# Altium schematic symbol library Allwinner.SCHLIB: 22 symbols (part 1 of 2)
Pins are listed as number, name and electrical type; pins without a type are passive.

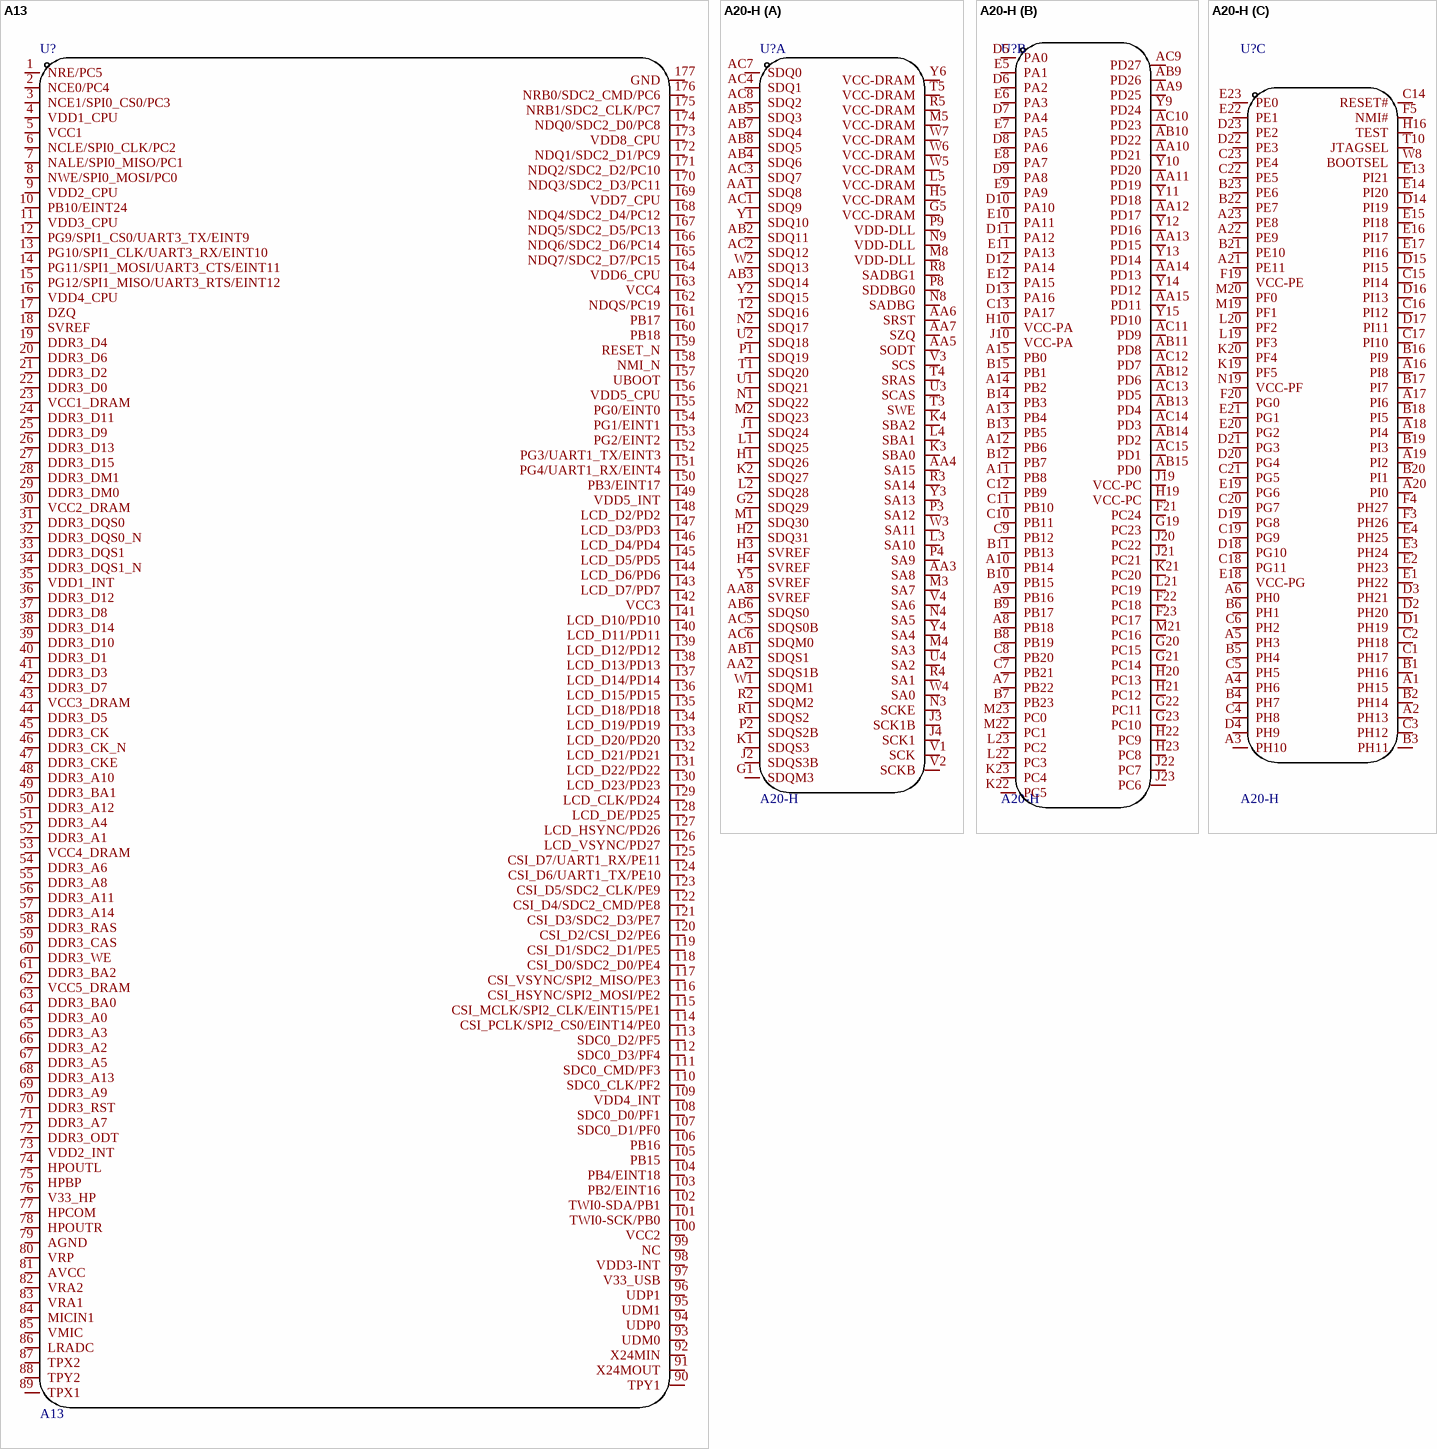
[diagram p0: symbols A13 to A20-H]

## A13
designator U?
Manufacturer: Allwinner(全志); Add into BOM: yes; Symbol: A13; Device: A13; LCSC Part Name: A13 停产; Supplier Part: C80524; Manufacturer Part: A13; Supplier Footprint: TQFP-176(20x20); JLCPCB Part Class: Extended Part; Datasheet: https://atta.szlcsc.com/upload/public/pdf/source/20161119/1479540174892.pdf; Supplier: LCSC; Convert to PCB: yes; Name: A13
footprint TQFP-176_L20.0-W20.0-P0.40-EP7.7-BL
3D model TQFP-176_L20.0-W20.0-H1.1-P0.40-EP7.7-BL
pins: 1 NRE/PC5, 2 NCE0/PC4, 3 NCE1/SPI0_CS0/PC3, 4 VDD1_CPU, 5 VCC1, 6 NCLE/SPI0_CLK/PC2, 7 NALE/SPI0_MISO/PC1, 8 NWE/SPI0_MOSI/PC0, 9 VDD2_CPU, 10 PB10/EINT24, 11 VDD3_CPU, 12 PG9/SPI1_CS0/UART3_TX/EINT9, 13 PG10/SPI1_CLK/UART3_RX/EINT10, 14 PG11/SPI1_MOSI/UART3_CTS/EINT11, 15 PG12/SPI1_MISO/UART3_RTS/EINT12, 16 VDD4_CPU, 17 DZQ, 18 SVREF, 19 DDR3_D4, 20 DDR3_D6, 21 DDR3_D2, 22 DDR3_D0, 23 VCC1_DRAM, 24 DDR3_D11, 25 DDR3_D9, 26 DDR3_D13, 27 DDR3_D15, 28 DDR3_DM1, 29 DDR3_DM0, 30 VCC2_DRAM, 31 DDR3_DQS0, 32 DDR3_DQS0_N, 33 DDR3_DQS1, 34 DDR3_DQS1_N, 35 VDD1_INT, 36 DDR3_D12, 37 DDR3_D8, 38 DDR3_D14, 39 DDR3_D10, 40 DDR3_D1, 41 DDR3_D3, 42 DDR3_D7, 43 VCC3_DRAM, 44 DDR3_D5, 45 DDR3_CK, 46 DDR3_CK_N, 47 DDR3_CKE, 48 DDR3_A10, 49 DDR3_BA1, 50 DDR3_A12, 51 DDR3_A4, 52 DDR3_A1, 53 VCC4_DRAM, 54 DDR3_A6, 55 DDR3_A8, 56 DDR3_A11, 57 DDR3_A14, 58 DDR3_RAS, 59 DDR3_CAS, 60 DDR3_WE, 61 DDR3_BA2, 62 VCC5_DRAM, 63 DDR3_BA0, 64 DDR3_A0, 65 DDR3_A3, 66 DDR3_A2, 67 DDR3_A5, 68 DDR3_A13, 69 DDR3_A9, 70 DDR3_RST, 71 DDR3_A7, 72 DDR3_ODT, 73 VDD2_INT, 74 HPOUTL, 75 HPBP, 76 V33_HP, 77 HPCOM, 78 HPOUTR, 79 AGND, 80 VRP, 81 AVCC, 82 VRA2, 83 VRA1, 84 MICIN1, 85 VMIC, 86 LRADC, 87 TPX2, 88 TPY2, 89 TPX1, 90 TPY1, 91 X24MOUT, 92 X24MIN, 93 UDM0, 94 UDP0, 95 UDM1, 96 UDP1, 97 V33_USB, 98 VDD3-INT, 99 NC, 100 VCC2, 101 TWI0-SCK/PB0, 102 TWI0-SDA/PB1, 103 PB2/EINT16, 104 PB4/EINT18, 105 PB15, 106 PB16, 107 SDC0_D1/PF0, 108 SDC0_D0/PF1, 109 VDD4_INT, 110 SDC0_CLK/PF2, 111 SDC0_CMD/PF3, 112 SDC0_D3/PF4, 113 SDC0_D2/PF5, 114 CSI_PCLK/SPI2_CS0/EINT14/PE0, 115 CSI_MCLK/SPI2_CLK/EINT15/PE1, 116 CSI_HSYNC/SPI2_MOSI/PE2, 117 CSI_VSYNC/SPI2_MISO/PE3, 118 CSI_D0/SDC2_D0/PE4, 119 CSI_D1/SDC2_D1/PE5, 120 CSI_D2/CSI_D2/PE6, 121 CSI_D3/SDC2_D3/PE7, 122 CSI_D4/SDC2_CMD/PE8, 123 CSI_D5/SDC2_CLK/PE9, 124 CSI_D6/UART1_TX/PE10, 125 CSI_D7/UART1_RX/PE11, 126 LCD_VSYNC/PD27, 127 LCD_HSYNC/PD26, 128 LCD_DE/PD25, 129 LCD_CLK/PD24, 130 LCD_D23/PD23, 131 LCD_D22/PD22, 132 LCD_D21/PD21, 133 LCD_D20/PD20, 134 LCD_D19/PD19, 135 LCD_D18/PD18, 136 LCD_D15/PD15, 137 LCD_D14/PD14, 138 LCD_D13/PD13, 139 LCD_D12/PD12, 140 LCD_D11/PD11, 141 LCD_D10/PD10, 142 VCC3, 143 LCD_D7/PD7, 144 LCD_D6/PD6, 145 LCD_D5/PD5, 146 LCD_D4/PD4, 147 LCD_D3/PD3, 148 LCD_D2/PD2, 149 VDD5_INT, 150 PB3/EINT17, 151 PG4/UART1_RX/EINT4, 152 PG3/UART1_TX/EINT3, 153 PG2/EINT2, 154 PG1/EINT1, 155 PG0/EINT0, 156 VDD5_CPU, 157 UBOOT, 158 NMI_N, 159 RESET_N, 160 PB18, 161 PB17, 162 NDQS/PC19, 163 VCC4, 164 VDD6_CPU, 165 NDQ7/SDC2_D7/PC15, 166 NDQ6/SDC2_D6/PC14, 167 NDQ5/SDC2_D5/PC13, 168 NDQ4/SDC2_D4/PC12, 169 VDD7_CPU, 170 NDQ3/SDC2_D3/PC11, 171 NDQ2/SDC2_D2/PC10, 172 NDQ1/SDC2_D1/PC9, 173 VDD8_CPU, 174 NDQ0/SDC2_D0/PC8, 175 NRB1/SDC2_CLK/PC7, 176 NRB0/SDC2_CMD/PC6, 177 GND

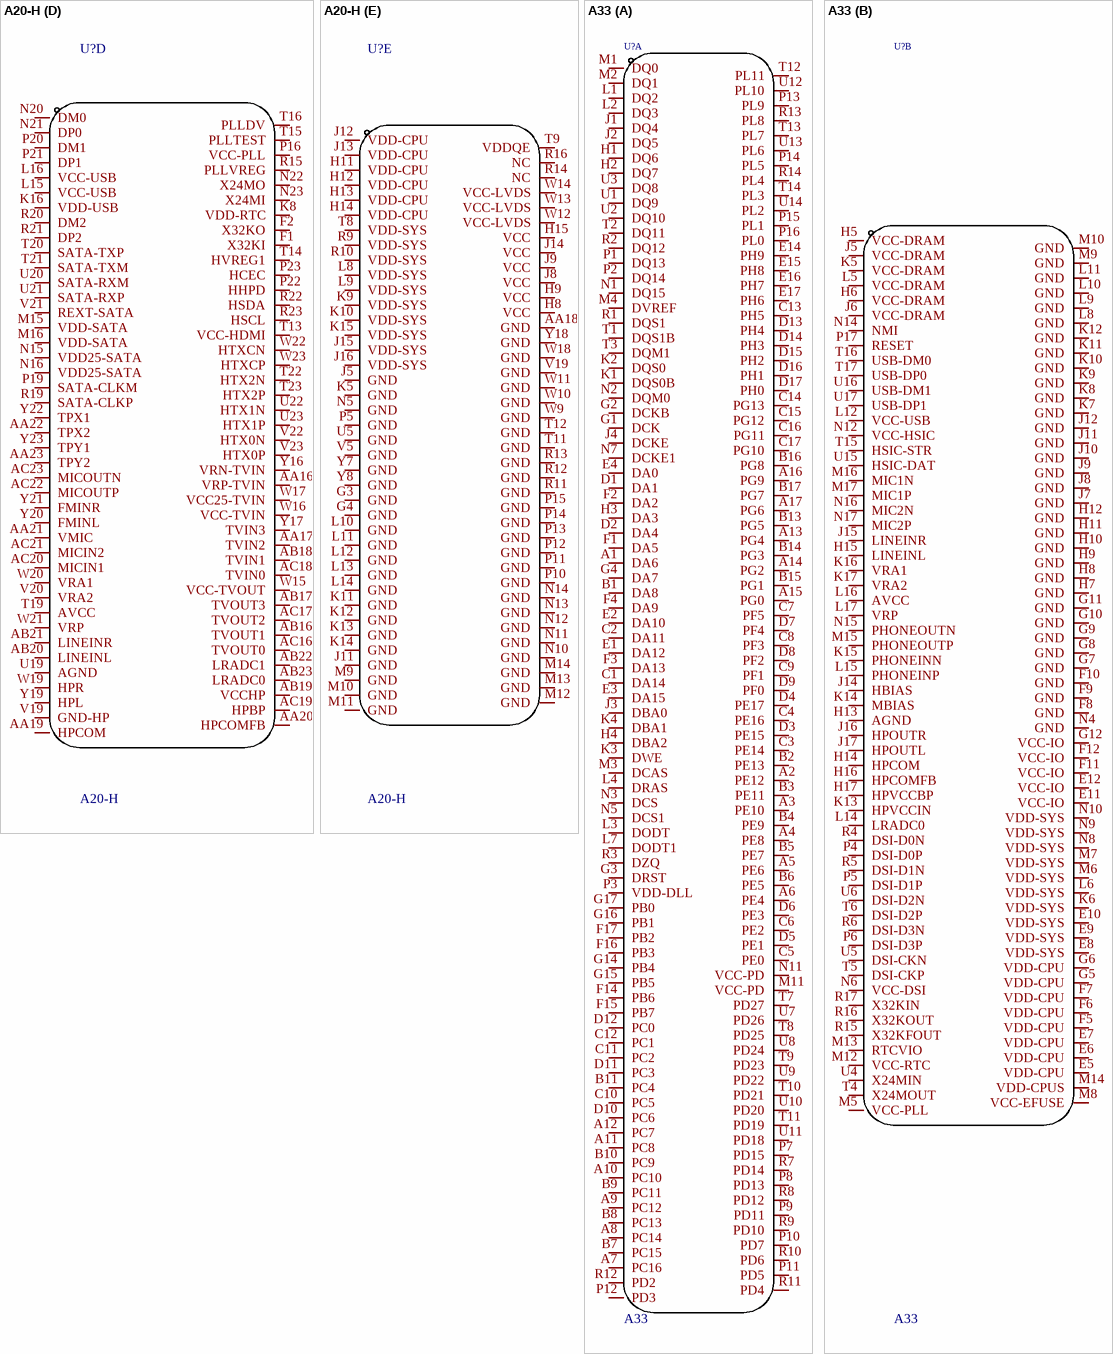
[diagram p1: symbols A20-H to A33]

## A20-H
designator U?
Manufacturer: Allwinner(全志); Add into BOM: yes; Name: A20-H; Symbol: A20-H; Device: A20-H; LCSC Part Name: A20; Supplier Part: C2935788; Manufacturer Part: A20-H; Supplier Footprint: BGA-441; JLCPCB Part Class: Extended Part; Datasheet: https://atta.szlcsc.com/upload/public/pdf/source/20220418/6489DA89877B92B927266B5EE447137C.pdf; Supplier: LCSC; Convert to PCB: yes
footprint BGA-441_L19.0-W19.0-P0.8_XAM2434ASFGGAALV
3D model BGA-441_L19.0-W19.0-P0.8_XAM2434ASFGGAALV
part A pins: AA1 SDQ8, AA2 SDQS1B, AA3 SA8, AA4 SA15, AA5 SODT, AA6 SRST, AA7 SZQ, AA8 SVREF, AB1 SDQS1, AB2 SDQ11, AB3 SDQ14, AB4 SDQ6, AB5 SDQ3, AB6 SDQS0, AB7 SDQ4, AB8 SDQ5, AC1 SDQ9, AC2 SDQ12, AC3 SDQ7, AC4 SDQ1, AC5 SDQS0B, AC6 SDQM0, AC7 SDQ0, AC8 SDQ2, G1 SDQM3, G2 SDQ29, G5 VCC-DRAM, H1 SDQ26, H2 SDQ31, H3 SVREF, H4 SVREF, H5 VCC-DRAM, J1 SDQ24, J2 SDQS3B, J3 SCK1B, J4 SCK1, K1 SDQS3, K2 SDQ27, K3 SBA0, K4 SBA2, L1 SDQ25, L2 SDQ28, L3 SA10, L4 SBA1, L5 VCC-DRAM, M1 SDQ30, M2 SDQ23, M3 SA7, M4 SA3, M5 VCC-DRAM, M8 VDD-DLL, N1 SDQ22, N2 SDQ17, N3 SCKE, N4 SA5, N8 SADBG, N9 VDD-DLL, P1 SDQ19, P2 SDQS2B, P3 SA12, P4 SA9, P8 SDDBG0, P9 VDD-DLL, R1 SDQS2, R2 SDQM2, R3 SA14, R4 SA1, R5 VCC-DRAM, R8 SADBG1, T1 SDQ20, T2 SDQ16, T3 SWE, T4 SRAS, T5 VCC-DRAM, U1 SDQ21, U2 SDQ18, U3 SCAS, U4 SA2, V1 SCK, V2 SCKB, V3 SCS, V4 SA6, W1 SDQM1, W2 SDQ13, W3 SA11, W4 SA0, W5 VCC-DRAM, W6 VCC-DRAM, W7 VCC-DRAM, Y1 SDQ10, Y2 SDQ15, Y3 SA13, Y4 SA4, Y5 SVREF, Y6 VCC-DRAM
part B pins: A7 PB22, A8 PB18, A9 PB16, A10 PB14, A11 PB8, A12 PB6, A13 PB4, A14 PB2, A15 PB0, AA9 PD25, AA10 PD21, AA11 PD19, AA12 PD17, AA13 PD15, AA14 PD13, AA15 PD11, AB9 PD26, AB10 PD22, AB11 PD8, AB12 PD6, AB13 PD4, AB14 PD2, AB15 PD0, AC9 PD27, AC10 PD23, AC11 PD9, AC12 PD7, AC13 PD5, AC14 PD3, AC15 PD1, B7 PB23, B8 PB19, B9 PB17, B10 PB15, B11 PB13, B12 PB7, B13 PB5, B14 PB3, B15 PB1, C7 PB21, C8 PB20, C9 PB12, C10 PB11, C11 PB10, C12 PB9, C13 PA17, D5 PA0, D6 PA2, D7 PA4, D8 PA6, D9 PA8, D10 PA10, D11 PA12, D12 PA14, D13 PA16, E5 PA1, E6 PA3, E7 PA5, E8 PA7, E9 PA9, E10 PA11, E11 PA13, E12 PA15, F21 PC24, F22 PC18, F23 PC17, G19 PC23, G20 PC15, G21 PC14, G22 PC11, G23 PC10, H10 VCC-PA, H19 VCC-PC, H20 PC13, H21 PC12, H22 PC9, H23 PC8, J10 VCC-PA, J19 VCC-PC, J20 PC22, J21 PC21, J22 PC7, J23 PC6, K21 PC20, K22 PC5, K23 PC4, L21 PC19, L22 PC3, L23 PC2, M21 PC16, M22 PC1, M23 PC0, Y9 PD24, Y10 PD20, Y11 PD18, Y12 PD16, Y13 PD14, Y14 PD12, Y15 PD10
part C pins: A1 PH15, A2 PH13, A3 PH10, A4 PH6, A5 PH3, A6 PH0, A16 PI8, A17 PI6, A18 PI4, A19 PI2, A20 PI0, A21 PE11, A22 PE9, A23 PE8, B1 PH16, B2 PH14, B3 PH11, B4 PH7, B5 PH4, B6 PH1, B16 PI9, B17 PI7, B18 PI5, B19 PI3, B20 PI1, B21 PE10, B22 PE7, B23 PE6, C1 PH17, C2 PH18, C3 PH12, C4 PH8, C5 PH5, C6 PH2, C14 RESET#, C15 PI14, C16 PI12, C17 PI10, C18 PG11, C19 PG9, C20 PG7, C21 PG5, C22 PE5, C23 PE4, D1 PH19, D2 PH20, D3 PH21, D4 PH9, D14 PI19, D15 PI15, D16 PI13, D17 PI11, D18 PG10, D19 PG8, D20 PG4, D21 PG3, D22 PE3, D23 PE2, E1 PH22, E2 PH23, E3 PH24, E4 PH25, E13 PI21, E14 PI20, E15 PI18, E16 PI17, E17 PI16, E18 VCC-PG, E19 PG6, E20 PG2, E21 PG1, E22 PE1, E23 PE0, F3 PH26, F4 PH27, F5 NMI#, F19 VCC-PE, F20 PG0, H16 TEST, K19 PF5, K20 PF4, L19 PF3, L20 PF2, M19 PF1, M20 PF0, N19 VCC-PF, T10 JTAGSEL, W8 BOOTSEL
part D pins: AA16 VRP-TVIN, AA17 TVIN2, AA19 HPCOM, AA20 HPCOMFB, AA21 VMIC, AA22 TPX2, AA23 TPY2, AB16 TVOUT1, AB17 TVOUT3, AB18 TVIN1, AB19 VCCHP, AB20 LINEINL, AB21 LINEINR, AB22 LRADC1, AB23 LRADC0, AC16 TVOUT0, AC17 TVOUT2, AC18 TVIN0, AC19 HPBP, AC20 MICIN1, AC21 MICIN2, AC22 MICOUTP, AC23 MICOUTN, F1 X32KI, F2 X32KO, K8 VDD-RTC, K16 VDD-USB, L15 VCC-USB, L16 VCC-USB, M15 VDD-SATA, M16 VDD-SATA, N15 VDD25-SATA, N16 VDD25-SATA, N20 DM0, N21 DP0, N22 X24MO, N23 X24MI, P16 VCC-PLL, P19 SATA-CLKM, P20 DM1, P21 DP1, P22 HHPD, P23 HCEC, R15 PLLVREG, R19 SATA-CLKP, R20 DM2, R21 DP2, R22 HSDA, R23 HSCL, T13 VCC-HDMI, T14 HVREG1, T15 PLLTEST, T16 PLLDV, T19 AVCC, T20 SATA-TXP, T21 SATA-TXM, T22 HTX2N, T23 HTX2P, U19 AGND, U20 SATA-RXM, U21 SATA-RXP, U22 HTX1N, U23 HTX1P, V19 GND-HP, V20 VRA2, V21 REXT-SATA, V22 HTX0N, V23 HTX0P, W15 VCC-TVOUT, W16 VCC-TVIN, W17 VCC25-TVIN, W19 HPR, W20 VRA1, W21 VRP, W22 HTXCN, W23 HTXCP, Y16 VRN-TVIN, Y17 TVIN3, Y19 HPL, Y20 FMINL, Y21 FMINR, Y22 TPX1, Y23 TPY1
part E pins: AA18 GND, G3 GND, G4 GND, H8 VCC, H9 VCC, H11 VDD-CPU, H12 VDD-CPU, H13 VDD-CPU, H14 VDD-CPU, H15 VCC, J5 GND, J8 VCC, J9 VCC, J11 GND, J12 VDD-CPU, J13 VDD-CPU, J14 VCC, J15 VDD-SYS, J16 VDD-SYS, K5 GND, K9 VDD-SYS, K10 VDD-SYS, K11 GND, K12 GND, K13 GND, K14 GND, K15 VDD-SYS, L8 VDD-SYS, L9 VDD-SYS, L10 GND, L11 GND, L12 GND, L13 GND, L14 GND, M9 GND, M10 GND, M11 GND, M12 GND, M13 GND, M14 GND, N5 GND, N10 GND, N11 GND, N12 GND, N13 GND, N14 GND, P5 GND, P10 GND, P11 GND, P12 GND, P13 GND, P14 GND, P15 GND, R9 VDD-SYS, R10 VDD-SYS, R11 GND, R12 GND, R13 GND, R14 NC, R16 NC, T8 VDD-SYS, T9 VDDQE, T11 GND, T12 GND, U5 GND, V5 GND, V19 GND, W9 GND, W10 GND, W11 GND, W12 VCC-LVDS, W13 VCC-LVDS, W14 VCC-LVDS, W18 GND, Y7 GND, Y8 GND, Y18 GND

## A33
designator U?
CPU Core:- CPU Maximum Speed:- Operating Voltage Range:- Operating Voltage Range:- Program Storage Size:- Program Memory Type:- RAM Size:- EEPROM:- GPIO Ports Number:- ADC (Bit):- DAC (Bit):- PWM (Bit):- 8Bit Timer:- 16Bit Timer:- 32Bit Timer:- CAN:- UART; Manufacturer: Allwinner(全志); Add into BOM: yes; Name: A33; Symbol: A33; Device: A33; LCSC Part Name: Allwinner A33 Allwinner A33; Supplier Part: C2845168; Manufacturer Part: A33; Supplier Footprint: TFBGA-282; JLCPCB Part Class: Extended Part; Datasheet: 2021-07-07/785467A/b1ac0bba73554d55b76d604ea0a8145f/A33Datasheetrelease.pdf; Supplier: LCSC; Convert to PCB: yes; CPU Core: -; CPU Maximum Speed: -; Operating Voltage Range: -; Program Storage Size: -; Program Memory Type: -; RAM Size: -; EEPROM: -; GPIO Ports Number: -; ADC (Bit): -; DAC (Bit): -; PWM (Bit): -; 8Bit Timer: -; 16Bit Timer: -; 32Bit Timer: -; CAN: -; UART/USART: -; I2C: -; I2S: -; SPI: -; Universal Serial Bus: -; Internal Comparator: -; Peripheral/Function: -; communication protocol: -; Watchdog: -; Real-Time Clock: -; Infrared Data Association: -; Low-Voltage Detect: -; CCP Capture/Compare: -; LCD Module: -; LED Module: -; Secure Digital Input and Output: -; Direct Memory Access: -; Internal Oscillator: -; Operating Temperature Range: -
footprint BGA-282_L14.0-W14.0-R17-W17-P0.8-TL
3D model BGA-282_L14.0-W14.0-R17-W17-P0.8-TL
part A pins: A1 DA6, A2 PE12, A3 PE10, A4 PE8, A5 PE6, A6 PE4, A7 PC16, A8 PC14, A9 PC12, A10 PC10, A11 PC8, A12 PC7, A13 PG4, A14 PG2, A15 PG0, A16 PG9, A17 PG6, B1 DA8, B2 PE13, B3 PE11, B4 PE9, B5 PE7, B6 PE5, B7 PC15, B8 PC13, B9 PC11, B10 PC9, B11 PC4, B13 PG5, B14 PG3, B15 PG1, B16 PG8, B17 PG7, C1 DA14, C2 DA11, C3 PE14, C4 PE16, C5 PE0, C6 PE2, C7 PF5, C8 PF3, C9 PF1, C10 PC5, C11 PC2, C12 PC1, C13 PH5, C14 PG13, C15 PG12, C16 PG11, C17 PG10, D1 DA1, D2 DA4, D3 PE15, D4 PE17, D5 PE1, D6 PE3, D7 PF4, D8 PF2, D9 PF0, D10 PC6, D11 PC3, D12 PC0, D13 PH4, D14 PH3, D15 PH2, D16 PH1, D17 PH0, E1 DA12, E2 DA10, E3 DA15, E4 DA0, E14 PH9, E15 PH8, E16 PH7, E17 PH6, F1 DA5, F2 DA2, F3 DA13, F4 DA9, F14 PB6, F15 PB7, F16 PB3, F17 PB2, G1 DCK, G2 DCKB, G3 DRST, G4 DA7, G14 PB4, G15 PB5, G16 PB1, G17 PB0, H1 DQ6, H2 DQ7, H3 DA3, H4 DBA2, J1 DQ4, J2 DQ5, J3 DBA0, J4 DCKE, K1 DQS0B, K2 DQS0, K3 DWE, K4 DBA1, L1 DQ2, L2 DQ3, L3 DODT, L4 DRAS, L7 DODT1, M1 DQ0, M2 DQ1, M3 DCAS, M4 DVREF, M11 VCC-PD, N1 DQ15, N2 DQM0, N3 DCS, N5 DCS1, N7 DCKE1, N11 VCC-PD, P1 DQ13, P2 DQ14, P3 VDD-DLL, P7 PD15, P8 PD13, P9 PD11, P10 PD7, P11 PD5, P12 PD3, P13 PL9, P14 PL5, P15 PL1, P16 PL0, R1 DQS1, R2 DQ12, R3 DZQ, R7 PD14, R8 PD12, R9 PD10, R10 PD6, R11 PD4, R12 PD2, R13 PL8, R14 PL4, T1 DQS1B, T2 DQ11, T3 DQM1, T7 PD27, T8 PD25, T9 PD23, T10 PD21, T11 PD19, T12 PL11, T13 PL7, T14 PL3, U1 DQ9, U2 DQ10, U3 DQ8, U7 PD26, U8 PD24, U9 PD22, U10 PD20, U11 PD18, U12 PL10, U13 PL6, U14 PL2
part B pins: E5 VDD-CPU, E6 VDD-CPU, E7 VDD-CPU, E8 VDD-SYS, E9 VDD-SYS, E10 VDD-SYS, E11 VCC-IO, E12 VCC-IO, F5 VDD-CPU, F6 VDD-CPU, F7 VDD-CPU, F8 GND, F9 GND, F10 GND, F11 VCC-IO, F12 VCC-IO, G5 VDD-CPU, G6 VDD-CPU, G7 GND, G8 GND, G9 GND, G10 GND, G11 GND, G12 VCC-IO, H5 VCC-DRAM, H6 VCC-DRAM, H7 GND, H8 GND, H9 GND, H10 GND, H11 GND, H12 GND, H13 AGND, H14 HPCOM, H15 LINEINL, H16 HPCOMFB, H17 HPVCCBP, J5 VCC-DRAM, J6 VCC-DRAM, J7 GND, J8 GND, J9 GND, J10 GND, J11 GND, J12 GND, J14 HBIAS, J15 LINEINR, J16 HPOUTR, J17 HPOUTL, K5 VCC-DRAM, K6 VDD-SYS, K7 GND, K8 GND, K9 GND, K10 GND, K11 GND, K12 GND, K13 HPVCCIN, K14 MBIAS, K15 PHONEINN, K16 VRA1, K17 VRA2, L5 VCC-DRAM, L6 VDD-SYS, L8 GND, L9 GND, L10 GND, L11 GND, L12 VCC-USB, L14 LRADC0, L15 PHONEINP, L16 AVCC, L17 VRP, M5 VCC-PLL, M6 VDD-SYS, M7 VDD-SYS, M8 VCC-EFUSE, M9 GND, M10 GND, M12 VCC-RTC, M13 RTCVIO, M14 VDD-CPUS, M15 PHONEOUTP, M16 MIC1N, M17 MIC1P, N4 GND, N6 VCC-DSI, N8 VDD-SYS, N9 VDD-SYS, N10 VDD-SYS, N12 VCC-HSIC, N14 NMI, N15 PHONEOUTN, N16 MIC2N, N17 MIC2P, P4 DSI-D0P, P5 DSI-D1P, P6 DSI-D3P, P17 RESET, R4 DSI-D0N, R5 DSI-D1N, R6 DSI-D3N, R15 X32KFOUT, R16 X32KOUT, R17 X32KIN, T4 X24MOUT, T5 DSI-CKP, T6 DSI-D2P, T15 HSIC-STR, T16 USB-DM0, T17 USB-DP0, U4 X24MIN, U5 DSI-CKN, U6 DSI-D2N, U15 HSIC-DAT, U16 USB-DM1, U17 USB-DP1

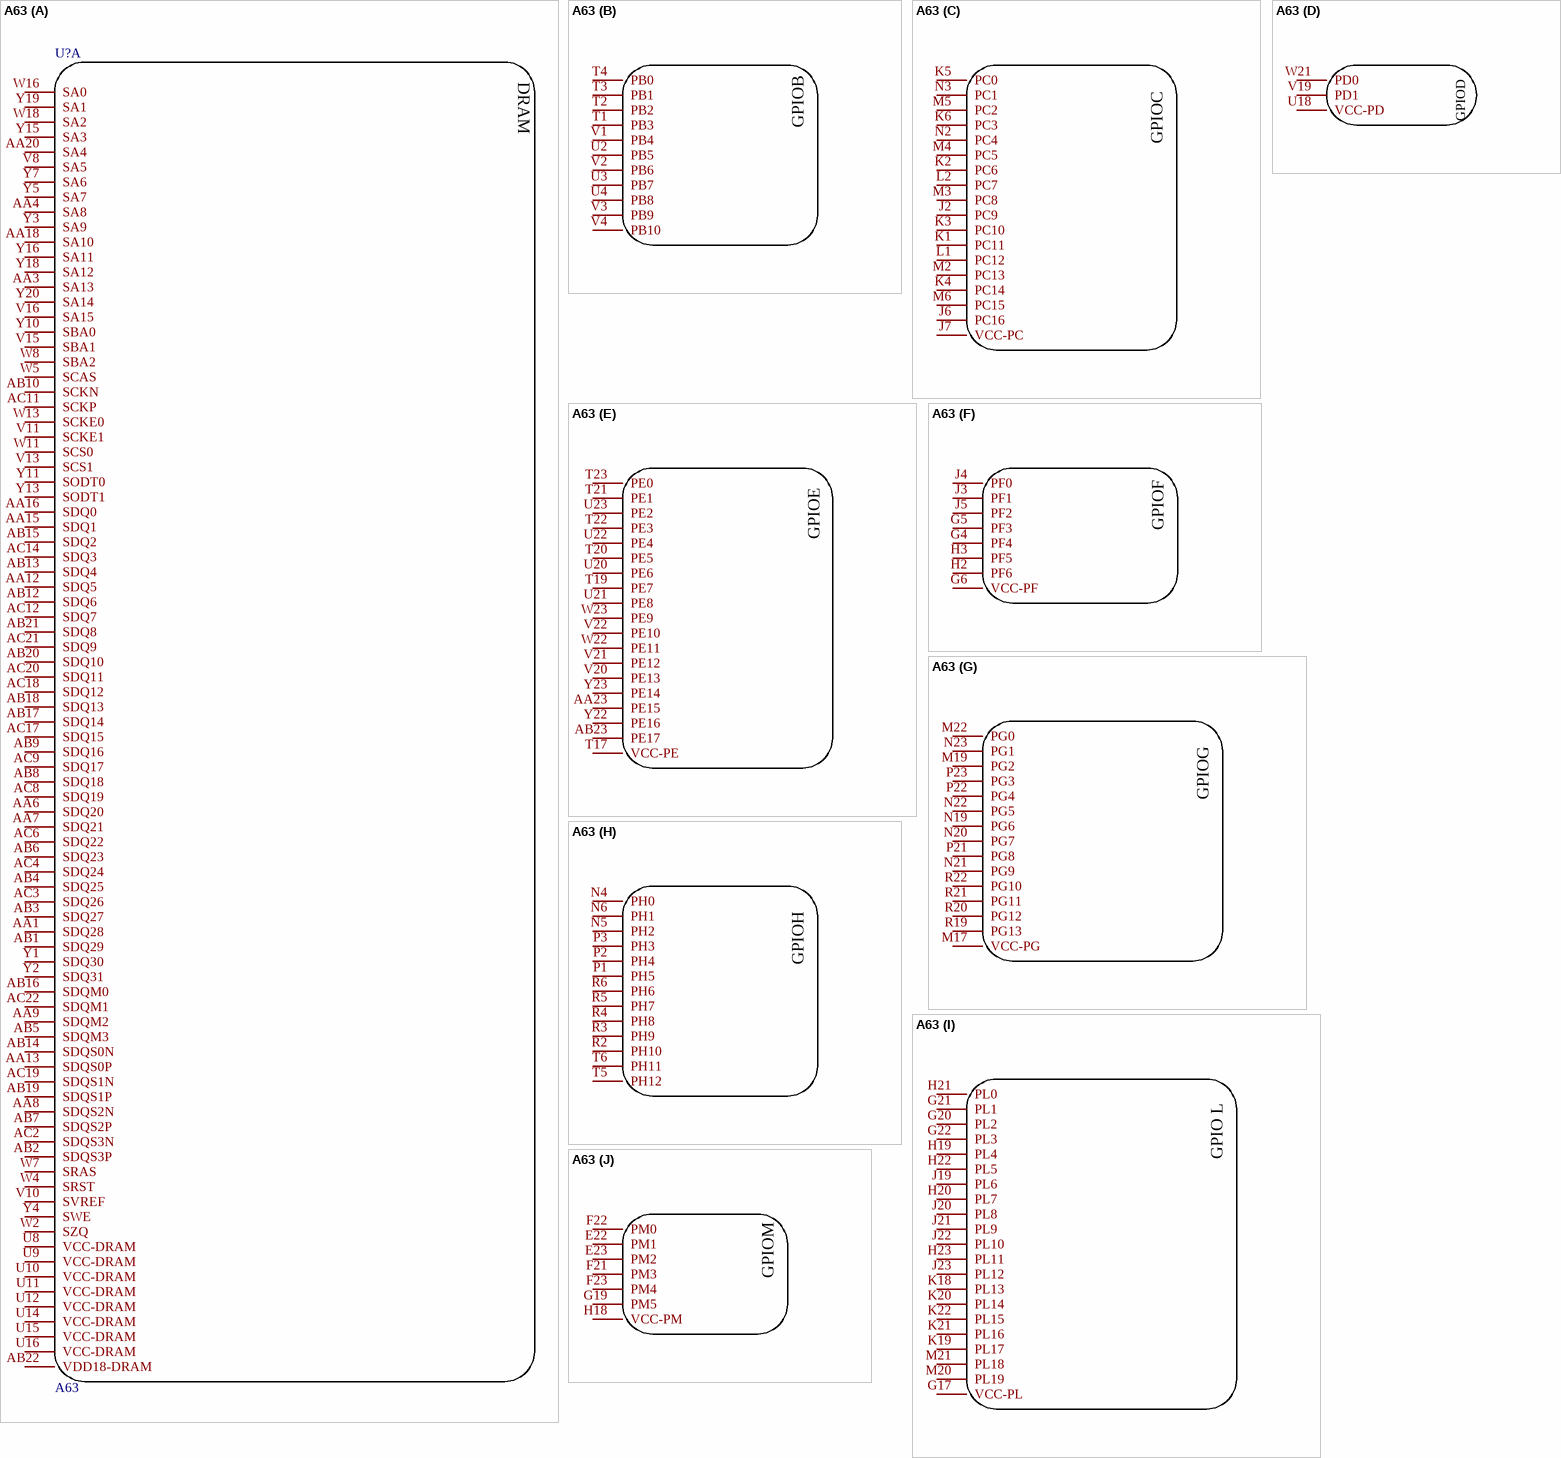
[diagram p2: symbol A63]

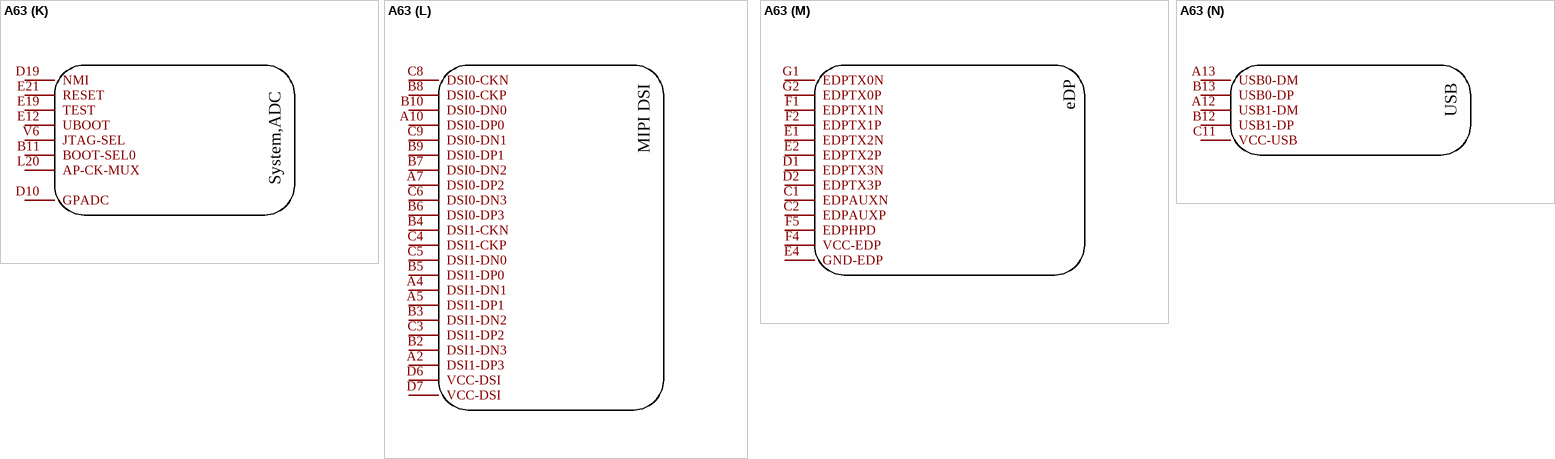
[diagram p3: symbol A63]

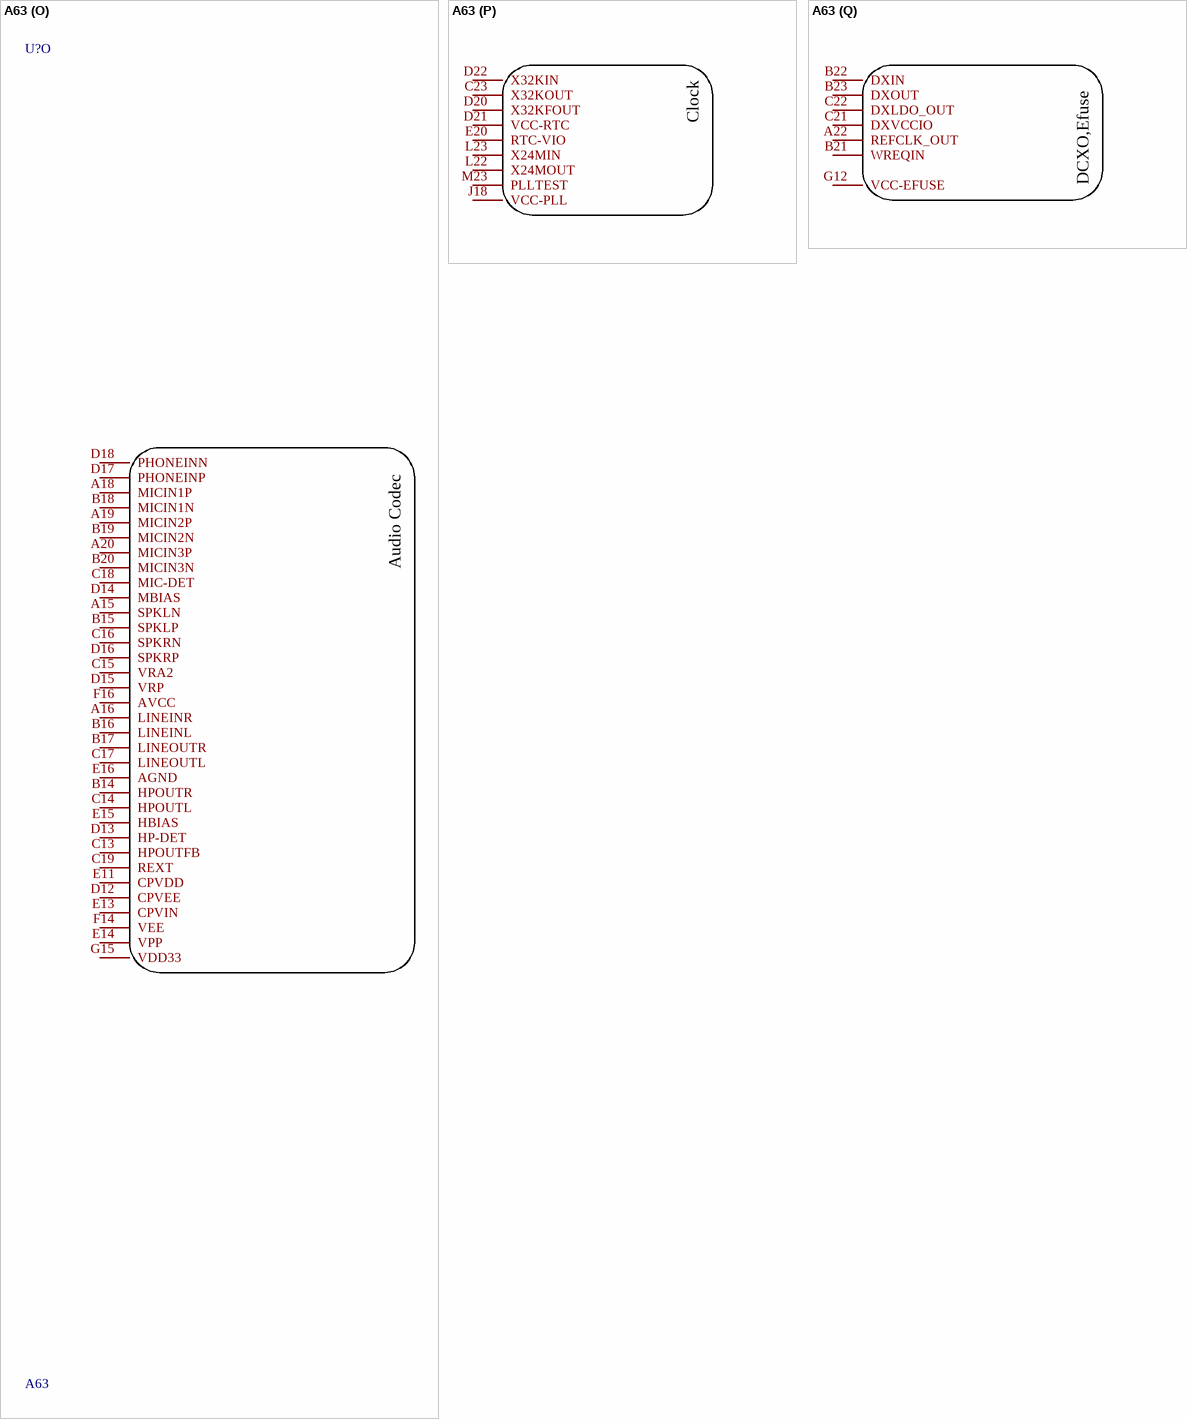
[diagram p4: symbol A63]

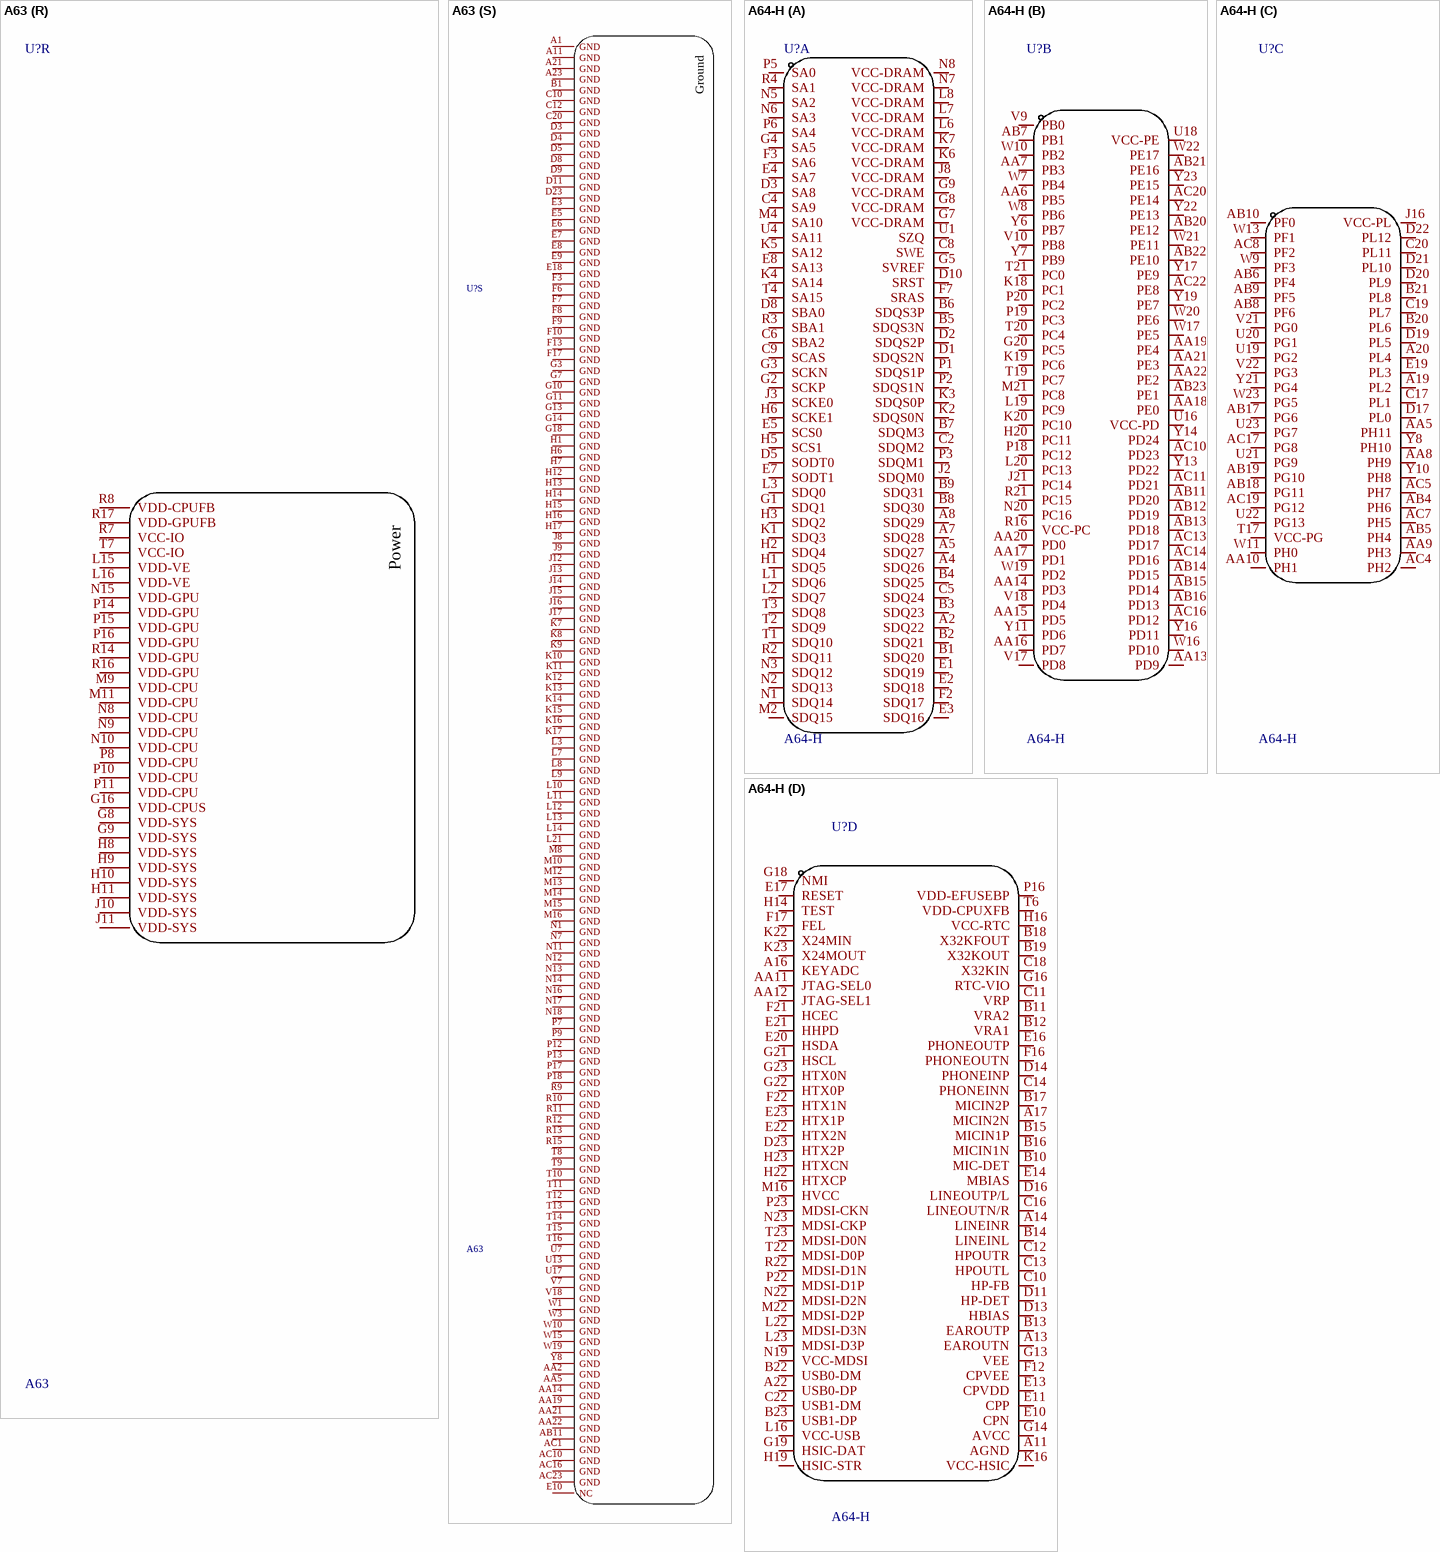
[diagram p5: symbols A63 to A64-H]

## A63
designator U?
CPU Core:- CPU Maximum Speed:- Operating Voltage Range:- Operating Voltage Range:- Program Storage Size:- Program Memory Type:- RAM Size:- EEPROM:- GPIO Ports Number:- ADC (Bit):- DAC (Bit):- PWM (Bit):- 8Bit Timer:- 16Bit Timer:- 32Bit Timer:- CAN:- UART; Manufacturer: Allwinner(全志); Add into BOM: yes; Name: A63; Symbol: A63; Device: A63; LCSC Part Name: Allwinner A63 Allwinner A63; Supplier Part: C2997891; Manufacturer Part: A63; Supplier Footprint: FCBGA463; JLCPCB Part Class: Extended Part; Datasheet: https://atta.szlcsc.com/upload/public/pdf/source/20220418/C6E3451959D8A8AE1434B395EFFD8523.pdf; Supplier: LCSC; Convert to PCB: yes; CPU Core: -; CPU Maximum Speed: -; Operating Voltage Range: -; Program Storage Size: -; Program Memory Type: -; RAM Size: -; EEPROM: -; GPIO Ports Number: -; ADC (Bit): -; DAC (Bit): -; PWM (Bit): -; 8Bit Timer: -; 16Bit Timer: -; 32Bit Timer: -; CAN: -; UART/USART: -; I2C: -; I2S: -; SPI: -; Universal Serial Bus: -; Internal Comparator: -; Peripheral/Function: -; communication protocol: -; Watchdog: -; Real-Time Clock: -; Infrared Data Association: -; Low-Voltage Detect: -; CCP Capture/Compare: -; LCD Module: -; LED Module: -; Secure Digital Input and Output: -; Direct Memory Access: -; Internal Oscillator: -; Operating Temperature Range: -
footprint FCBGA-463_L15.0-W15.0-P0.65-TL_ALLWINNER_A63
3D model FCBGA-463_L15.0-W15.0-P0.65-TL_ALLWINNER_A63
part A pins: AA1 SDQ28, AA3 SA13, AA4 SA8, AA6 SDQ20, AA7 SDQ21, AA8 SDQS2N, AA9 SDQM2, AA12 SDQ5, AA13 SDQS0P, AA15 SDQ1, AA16 SDQ0, AA18 SA10, AA20 SA4, AB1 SDQ29, AB2 SDQS3P, AB3 SDQ27, AB4 SDQ25, AB5 SDQM3, AB6 SDQ23, AB7 SDQS2P, AB8 SDQ18, AB9 SDQ16, AB10 SCKN, AB12 SDQ6, AB13 SDQ4, AB14 SDQS0N, AB15 SDQ2, AB16 SDQM0, AB17 SDQ14, AB18 SDQ13, AB19 SDQS1P, AB20 SDQ10, AB21 SDQ8, AB22 VDD18-DRAM, AC2 SDQS3N, AC3 SDQ26, AC4 SDQ24, AC6 SDQ22, AC8 SDQ19, AC9 SDQ17, AC11 SCKP, AC12 SDQ7, AC14 SDQ3, AC17 SDQ15, AC18 SDQ12, AC19 SDQS1N, AC20 SDQ11, AC21 SDQ9, AC22 SDQM1, U8 VCC-DRAM, U9 VCC-DRAM, U10 VCC-DRAM, U11 VCC-DRAM, U12 VCC-DRAM, U14 VCC-DRAM, U15 VCC-DRAM, U16 VCC-DRAM, V8 SA5, V10 SVREF, V11 SCKE1, V13 SCS1, V15 SBA1, V16 SA15, W2 SZQ, W4 SRST, W5 SCAS, W7 SRAS, W8 SBA2, W11 SCS0, W13 SCKE0, W16 SA0, W18 SA2, Y1 SDQ30, Y2 SDQ31, Y3 SA9, Y4 SWE, Y5 SA7, Y7 SA6, Y10 SBA0, Y11 SODT0, Y13 SODT1, Y15 SA3, Y16 SA11, Y18 SA12, Y19 SA1, Y20 SA14
part B pins: T1 PB3, T2 PB2, T3 PB1, T4 PB0, U2 PB5, U3 PB7, U4 PB8, V1 PB4, V2 PB6, V3 PB9, V4 PB10
part C pins: J2 PC9, J6 PC16, J7 VCC-PC, K1 PC11, K2 PC6, K3 PC10, K4 PC14, K5 PC0, K6 PC3, L1 PC12, L2 PC7, M2 PC13, M3 PC8, M4 PC5, M5 PC2, M6 PC15, N2 PC4, N3 PC1
part D pins: U18 VCC-PD, V19 PD1, W21 PD0
part E pins: AA23 PE15, AB23 PE17, T17 VCC-PE, T19 PE7, T20 PE5, T21 PE1, T22 PE3, T23 PE0, U20 PE6, U21 PE8, U22 PE4, U23 PE2, V20 PE13, V21 PE12, V22 PE10, W22 PE11, W23 PE9, Y22 PE16, Y23 PE14
part F pins: G4 PF4, G5 PF3, G6 VCC-PF, H2 PF6, H3 PF5, J3 PF1, J4 PF0, J5 PF2
part G pins: M17 VCC-PG, M19 PG2, M22 PG0, N19 PG6, N20 PG7, N21 PG9, N22 PG5, N23 PG1, P21 PG8, P22 PG4, P23 PG3, R19 PG13, R20 PG12, R21 PG11, R22 PG10
part H pins: N4 PH0, N5 PH2, N6 PH1, P1 PH5, P2 PH4, P3 PH3, R2 PH10, R3 PH9, R4 PH8, R5 PH7, R6 PH6, T5 PH12, T6 PH11
part I pins: G17 VCC-PL, G20 PL2, G21 PL1, G22 PL3, H19 PL4, H20 PL7, H21 PL0, H22 PL5, H23 PL11, J19 PL6, J20 PL8, J21 PL9, J22 PL10, J23 PL12, K18 PL13, K19 PL17, K20 PL14, K21 PL16, K22 PL15, M20 PL19, M21 PL18
part J pins: E22 PM1, E23 PM2, F21 PM3, F22 PM0, F23 PM4, G19 PM5, H18 VCC-PM
part K pins: B11 BOOT-SEL0, D10 GPADC, D19 NMI, E12 UBOOT, E19 TEST, E21 RESET, L20 AP-CK-MUX, V6 JTAG-SEL
part L pins: A2 DSI1-DP3, A4 DSI1-DN1, A5 DSI1-DP1, A7 DSI0-DP2, A10 DSI0-DP0, B2 DSI1-DN3, B3 DSI1-DN2, B4 DSI1-CKN, B5 DSI1-DP0, B6 DSI0-DP3, B7 DSI0-DN2, B8 DSI0-CKP, B9 DSI0-DP1, B10 DSI0-DN0, C3 DSI1-DP2, C4 DSI1-CKP, C5 DSI1-DN0, C6 DSI0-DN3, C8 DSI0-CKN, C9 DSI0-DN1, D6 VCC-DSI, D7 VCC-DSI
part M pins: C1 EDPAUXN, C2 EDPAUXP, D1 EDPTX3N, D2 EDPTX3P, E1 EDPTX2N, E2 EDPTX2P, E4 GND-EDP, F1 EDPTX1N, F2 EDPTX1P, F4 VCC-EDP, F5 EDPHPD, G1 EDPTX0N, G2 EDPTX0P
part N pins: A12 USB1-DM, A13 USB0-DM, B12 USB1-DP, B13 USB0-DP, C11 VCC-USB
part O pins: A15 SPKLN, A16 LINEINR, A18 MICIN1P, A19 MICIN2P, A20 MICIN3P, B14 HPOUTR, B15 SPKLP, B16 LINEINL, B17 LINEOUTR, B18 MICIN1N, B19 MICIN2N, B20 MICIN3N, C13 HPOUTFB, C14 HPOUTL, C15 VRA2, C16 SPKRN, C17 LINEOUTL, C18 MIC-DET, C19 REXT, D12 CPVEE, D13 HP-DET, D14 MBIAS, D15 VRP, D16 SPKRP, D17 PHONEINP, D18 PHONEINN, E11 CPVDD, E13 CPVIN, E14 VPP, E15 HBIAS, E16 AGND, F14 VEE, F16 AVCC, G15 VDD33
part P pins: C23 X32KOUT, D20 X32KFOUT, D21 VCC-RTC, D22 X32KIN, E20 RTC-VIO, J18 VCC-PLL, L22 X24MOUT, L23 X24MIN, M23 PLLTEST
part Q pins: A22 REFCLK_OUT, B21 WREQIN, B22 DXIN, B23 DXOUT, C21 DXVCCIO, C22 DXLDO_OUT, G12 VCC-EFUSE
part R pins: G8 VDD-SYS, G9 VDD-SYS, G16 VDD-CPUS, H8 VDD-SYS, H9 VDD-SYS, H10 VDD-SYS, H11 VDD-SYS, J10 VDD-SYS, J11 VDD-SYS, L15 VDD-VE, L16 VDD-VE, M9 VDD-CPU, M11 VDD-CPU, N8 VDD-CPU, N9 VDD-CPU, N10 VDD-CPU, N15 VDD-GPU, P8 VDD-CPU, P10 VDD-CPU, P11 VDD-CPU, P14 VDD-GPU, P15 VDD-GPU, P16 VDD-GPU, R7 VCC-IO, R8 VDD-CPUFB, R14 VDD-GPU, R16 VDD-GPU, R17 VDD-GPUFB, T7 VCC-IO
part S pins: A1 GND, A11 GND, A21 GND, A23 GND, AA2 GND, AA5 GND, AA14 GND, AA19 GND, AA21 GND, AA22 GND, AB11 GND, AC1 GND, AC10 GND, AC16 GND, AC23 GND, B1 GND, C10 GND, C12 GND, C20 GND, D3 GND, D4 GND, D5 GND, D8 GND, D9 GND, D11 GND, D23 GND, E3 GND, E5 GND, E6 GND, E7 GND, E8 GND, E9 GND, E10 NC, E18 GND, F3 GND, F6 GND, F7 GND, F8 GND, F9 GND, F10 GND, F13 GND, F17 GND, G3 GND, G7 GND, G10 GND, G11 GND, G13 GND, G14 GND, G18 GND, H1 GND, H6 GND, H7 GND, H12 GND, H13 GND, H14 GND, H15 GND, H16 GND, H17 GND, J8 GND, J9 GND, J12 GND, J13 GND, J14 GND, J15 GND, J16 GND, J17 GND, K7 GND, K8 GND, K9 GND, K10 GND, K11 GND, K12 GND, K13 GND, K14 GND, K15 GND, K16 GND, K17 GND, L3 GND, L7 GND, L8 GND, L9 GND, L10 GND, L11 GND, L12 GND, L13 GND, L14 GND, L21 GND, M8 GND, M10 GND, M12 GND, M13 GND, M14 GND, M15 GND, M16 GND, N1 GND, N7 GND, N11 GND, N12 GND, N13 GND, N14 GND, N16 GND, N17 GND, N18 GND, P7 GND, P9 GND, P12 GND, P13 GND, P17 GND, P18 GND, R9 GND, R10 GND, R11 GND, R12 GND, R13 GND, R15 GND, T8 GND, T9 GND, T10 GND, T11 GND, T12 GND, T13 GND, T14 GND, T15 GND, T16 GND, U7 GND, U13 GND, U17 GND, V7 GND, V18 GND, W1 GND, W3 GND, W10 GND, W15 GND, W19 GND, Y8 GND
part A text: DRAM
part B text: GPIOB
part C text: GPIOC
part D text: GPIOD
part E text: GPIOE
part F text: GPIOF
part G text: GPIOG
part H text: GPIOH
part I text: GPIO L
part J text: GPIOM
part K text: System,ADC
part L text: MIPI DSI
part M text: eDP
part N text: USB
part O text: Audio Codec
part P text: Clock
part Q text: DCXO,Efuse
part R text: Power
part S text: Ground

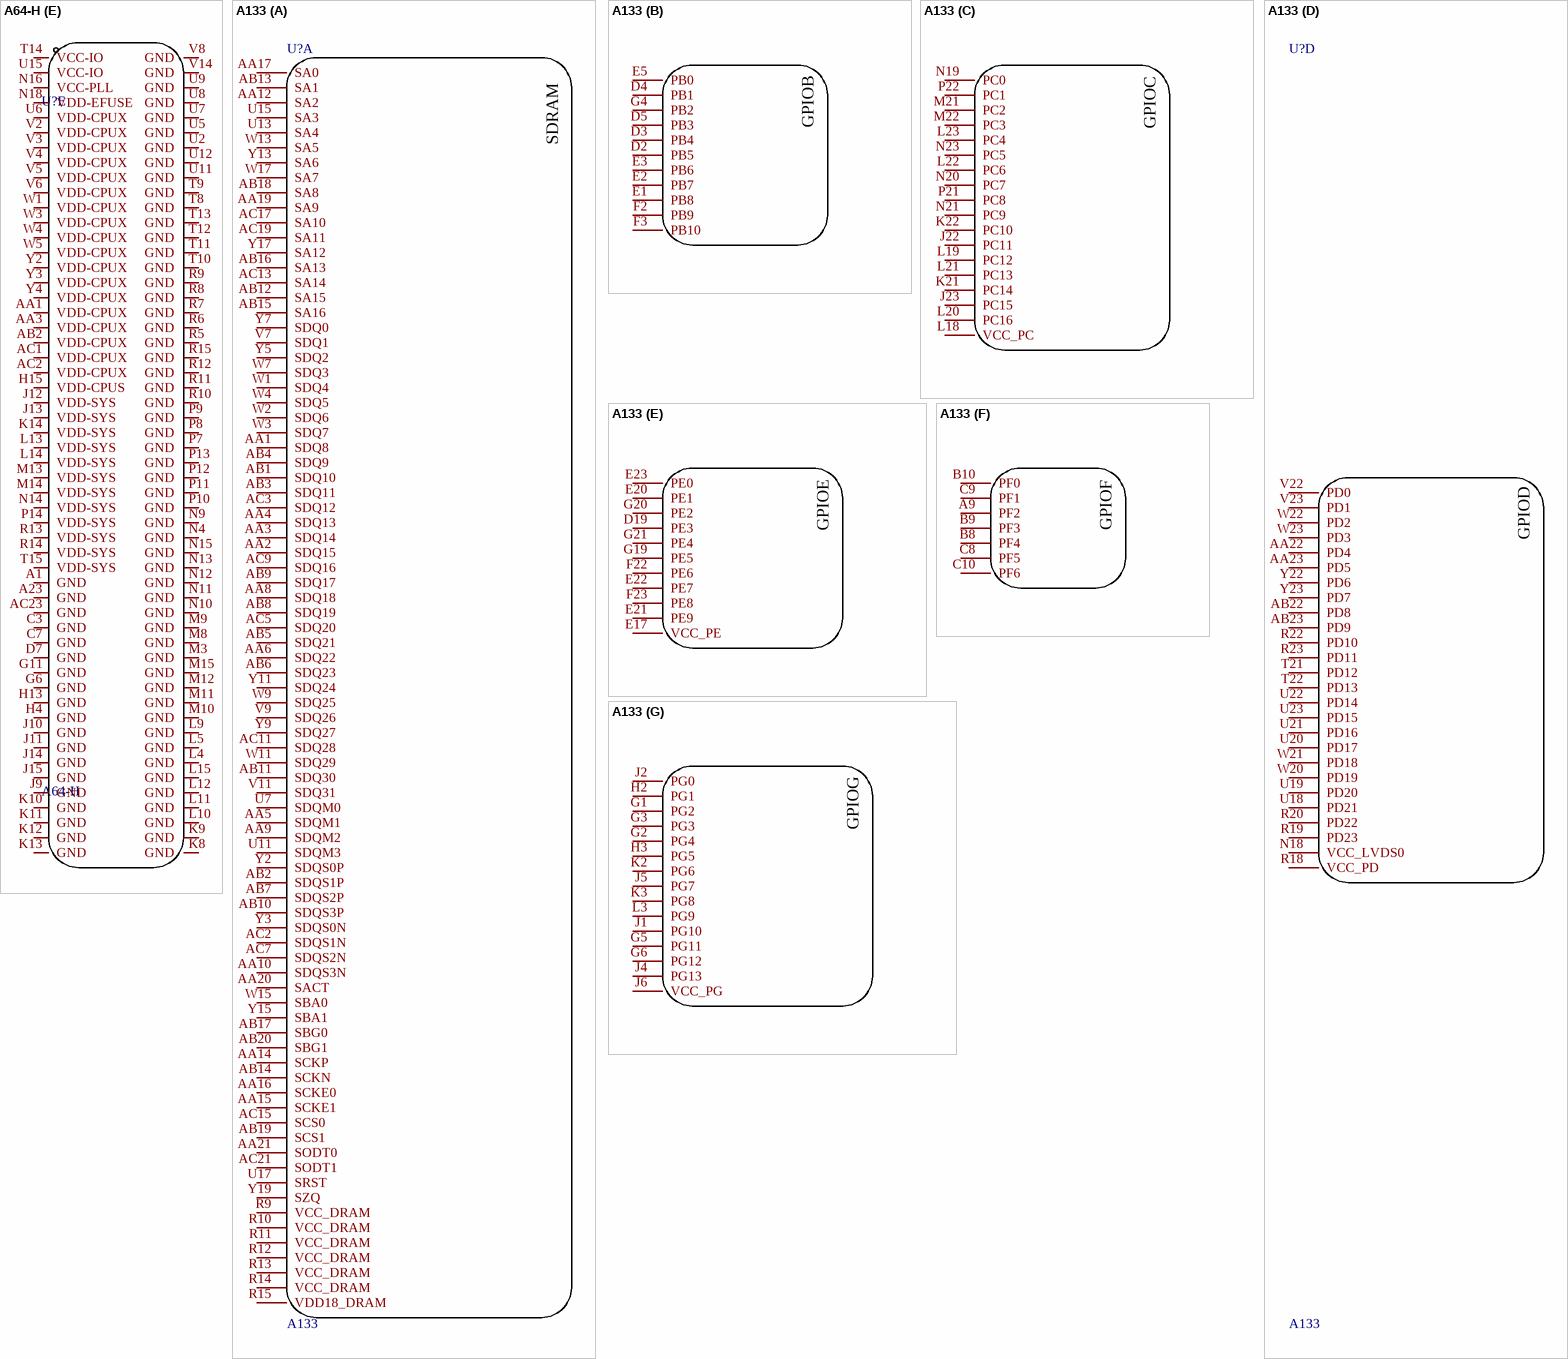
[diagram p6: symbols A64-H to A133]

## A64-H
designator U?
CPU Core:- CPU Maximum Speed:- Operating Voltage Range:- Operating Voltage Range:- Program Storage Size:- Program Memory Type:- RAM Size:- EEPROM:- GPIO Ports Number:- ADC (Bit):- DAC (Bit):- PWM (Bit):- 8Bit Timer:- 16Bit Timer:- 32Bit Timer:- CAN:- UART; Manufacturer: Allwinner(全志); Add into BOM: yes; Name: A64-H; Symbol: A64-H; Device: A64-H; LCSC Part Name: Allwinner A64-H Allwinner A64-H; Supplier Part: C3036453; Manufacturer Part: A64-H; Supplier Footprint: BGA-396; JLCPCB Part Class: Extended Part; Datasheet: 2022-09-08/497412A/3bec45c80de649abb42ba9d4cd7ef696/A64DatasheetV10.pdf; Supplier: LCSC; Convert to PCB: yes; CPU Core: -; CPU Maximum Speed: -; Operating Voltage Range: -; Program Storage Size: -; Program Memory Type: -; RAM Size: -; EEPROM: -; GPIO Ports Number: -; ADC (Bit): -; DAC (Bit): -; PWM (Bit): -; 8Bit Timer: -; 16Bit Timer: -; 32Bit Timer: -; CAN: -; UART/USART: -; I2C: -; I2S: -; SPI: -; Universal Serial Bus: -; Internal Comparator: -; Peripheral/Function: -; communication protocol: -; Watchdog: -; Real-Time Clock: -; Infrared Data Association: -; Low-Voltage Detect: -; CCP Capture/Compare: -; LCD Module: -; LED Module: -; Secure Digital Input and Output: -; Direct Memory Access: -; Internal Oscillator: -; Operating Temperature Range: -
footprint FBGA-396_L15.0-W15.0-P0.65-TL_A64
3D model FBGA-396_L15.0-W15.0-P0.65-TL_A64
part A pins: A2 SDQ22, A4 SDQ26, A5 SDQ27, A7 SDQ28, A8 SDQ29, B1 SDQ20, B2 SDQ21, B3 SDQ23, B4 SDQ25, B5 SDQS3N, B6 SDQS3P, B7 SDQM3, B8 SDQ30, B9 SDQ31, C2 SDQM2, C4 SA9, C5 SDQ24, C6 SBA2, C8 SWE, C9 SCAS, D1 SDQS2N, D2 SDQS2P, D3 SA8, D5 SODT0, D8 SBA0, D10 SRST, E1 SDQ19, E2 SDQ18, E3 SDQ16, E4 SA7, E5 SCS0, E7 SODT1, E8 SA13, F2 SDQ17, F3 SA6, F7 SRAS, G1 SDQ1, G2 SCKP, G3 SCKN, G4 SA5, G5 SVREF, G7 VCC-DRAM, G8 VCC-DRAM, G9 VCC-DRAM, H1 SDQ5, H2 SDQ4, H3 SDQ2, H5 SCS1, H6 SCKE1, J2 SDQM0, J3 SCKE0, J8 VCC-DRAM, K1 SDQ3, K2 SDQS0N, K3 SDQS0P, K4 SA14, K5 SA12, K6 VCC-DRAM, K7 VCC-DRAM, L1 SDQ6, L2 SDQ7, L3 SDQ0, L6 VCC-DRAM, L7 VCC-DRAM, L8 VCC-DRAM, M2 SDQ15, M4 SA10, N1 SDQ14, N2 SDQ13, N3 SDQ12, N5 SA2, N6 SA3, N7 VCC-DRAM, N8 VCC-DRAM, P1 SDQS1P, P2 SDQS1N, P3 SDQM1, P5 SA0, P6 SA4, R2 SDQ11, R3 SBA1, R4 SA1, T1 SDQ10, T2 SDQ9, T3 SDQ8, T4 SA15, U1 SZQ, U4 SA11
part B pins: AA6 PB5, AA7 PB3, AA13 PD9, AA14 PD3, AA15 PD5, AA16 PD7, AA17 PD1, AA18 PE0, AA19 PE4, AA20 PD0, AA21 PE3, AA22 PE2, AB7 PB1, AB11 PD20, AB12 PD19, AB13 PD18, AB14 PD15, AB15 PD14, AB16 PD13, AB20 PE12, AB21 PE16, AB22 PE10, AB23 PE1, AC10 PD23, AC11 PD21, AC13 PD17, AC14 PD16, AC16 PD12, AC20 PE14, AC22 PE8, G20 PC5, H20 PC11, J21 PC14, K18 PC1, K19 PC6, K20 PC10, L19 PC9, L20 PC13, M21 PC8, N20 PC16, P18 PC12, P19 PC3, P20 PC2, R16 VCC-PC, R21 PC15, T19 PC7, T20 PC4, T21 PC0, U16 VCC-PD, U18 VCC-PE, V9 PB0, V10 PB8, V17 PD8, V18 PD4, W7 PB4, W8 PB6, W10 PB2, W16 PD10, W17 PE5, W19 PD2, W20 PE6, W21 PE11, W22 PE17, Y6 PB7, Y7 PB9, Y11 PD6, Y13 PD22, Y14 PD24, Y16 PD11, Y17 PE9, Y19 PE7, Y22 PE13, Y23 PE15
part C pins: A19 PL2, A20 PL4, AA5 PH11, AA8 PH9, AA9 PH3, AA10 PH1, AB4 PH6, AB5 PH4, AB6 PF4, AB8 PF6, AB9 PF5, AB10 PF0, AB17 PG6, AB18 PG11, AB19 PG10, AC4 PH2, AC5 PH7, AC7 PH5, AC8 PF2, AC17 PG8, AC19 PG12, B20 PL6, B21 PL8, C17 PL1, C19 PL7, C20 PL11, D17 PL0, D19 PL5, D20 PL9, D21 PL10, D22 PL12, E19 PL3, J16 VCC-PL, T17 VCC-PG, U19 PG2, U20 PG1, U21 PG9, U22 PG13, U23 PG7, V21 PG0, V22 PG3, W9 PF3, W11 PH0, W13 PF1, W23 PG5, Y8 PH10, Y10 PH8, Y21 PG4
part D pins: A11 AGND, A13 EAROUTN, A14 LINEINR, A16 KEYADC, A17 MICIN2N, A22 USB0-DP, AA11 JTAG-SEL0, AA12 JTAG-SEL1, B10 MIC-DET, B11 VRA2, B12 VRA1, B13 EAROUTP, B14 LINEINL, B15 MICIN1P, B16 MICIN1N, B17 MICIN2P, B18 X32KFOUT, B19 X32KOUT, B22 USB0-DM, B23 USB1-DP, C10 HP-FB, C11 VRP, C12 HPOUTR, C13 HPOUTL, C14 PHONEINN, C16 LINEOUTN/R, C18 X32KIN, C22 USB1-DM, D11 HP-DET, D13 HBIAS, D14 PHONEINP, D16 LINEOUTP/L, D23 HTX2P, E10 CPN, E11 CPP, E13 CPVDD, E14 MBIAS, E16 PHONEOUTP, E17 RESET, E20 HSDA, E21 HHPD, E22 HTX2N, E23 HTX1P, F12 CPVEE, F16 PHONEOUTN, F17 FEL, F21 HCEC, F22 HTX1N, G13 VEE, G14 AVCC, G16 RTC-VIO, G18 NMI, G19 HSIC-DAT, G21 HSCL, G22 HTX0P, G23 HTX0N, H14 TEST, H16 VCC-RTC, H19 HSIC-STR, H22 HTXCP, H23 HTXCN, K16 VCC-HSIC, K22 X24MIN, K23 X24MOUT, L16 VCC-USB, L22 MDSI-D3N, L23 MDSI-D3P, M16 HVCC, M22 MDSI-D2P, N19 VCC-MDSI, N22 MDSI-D2N, N23 MDSI-CKP, P16 VDD-EFUSEBP, P22 MDSI-D1P, P23 MDSI-CKN, R22 MDSI-D1N, T6 VDD-CPUXFB, T22 MDSI-D0P, T23 MDSI-D0N
part E pins: A1 GND, A23 GND, AA1 VDD-CPUX, AA3 VDD-CPUX, AB2 VDD-CPUX, AC1 VDD-CPUX, AC2 VDD-CPUX, AC23 GND, C3 GND, C7 GND, D7 GND, G6 GND, G11 GND, H4 GND, H13 GND, H15 VDD-CPUS, J9 GND, J10 GND, J11 GND, J12 VDD-SYS, J13 VDD-SYS, J14 GND, J15 GND, K8 GND, K9 GND, K10 GND, K11 GND, K12 GND, K13 GND, K14 VDD-SYS, L4 GND, L5 GND, L9 GND, L10 GND, L11 GND, L12 GND, L13 VDD-SYS, L14 VDD-SYS, L15 GND, M3 GND, M8 GND, M9 GND, M10 GND, M11 GND, M12 GND, M13 VDD-SYS, M14 VDD-SYS, M15 GND, N4 GND, N9 GND, N10 GND, N11 GND, N12 GND, N13 GND, N14 VDD-SYS, N15 GND, N16 VCC-PLL, N18 VDD-EFUSE, P7 GND, P8 GND, P9 GND, P10 GND, P11 GND, P12 GND, P13 GND, P14 VDD-SYS, R5 GND, R6 GND, R7 GND, R8 GND, R9 GND, R10 GND, R11 GND, R12 GND, R13 VDD-SYS, R14 VDD-SYS, R15 GND, T8 GND, T9 GND, T10 GND, T11 GND, T12 GND, T13 GND, T14 VCC-IO, T15 VDD-SYS, U2 GND, U5 GND, U6 VDD-CPUX, U7 GND, U8 GND, U9 GND, U11 GND, U12 GND, U15 VCC-IO, V2 VDD-CPUX, V3 VDD-CPUX, V4 VDD-CPUX, V5 VDD-CPUX, V6 VDD-CPUX, V8 GND, V14 GND, W1 VDD-CPUX, W3 VDD-CPUX, W4 VDD-CPUX, W5 VDD-CPUX, Y2 VDD-CPUX, Y3 VDD-CPUX, Y4 VDD-CPUX

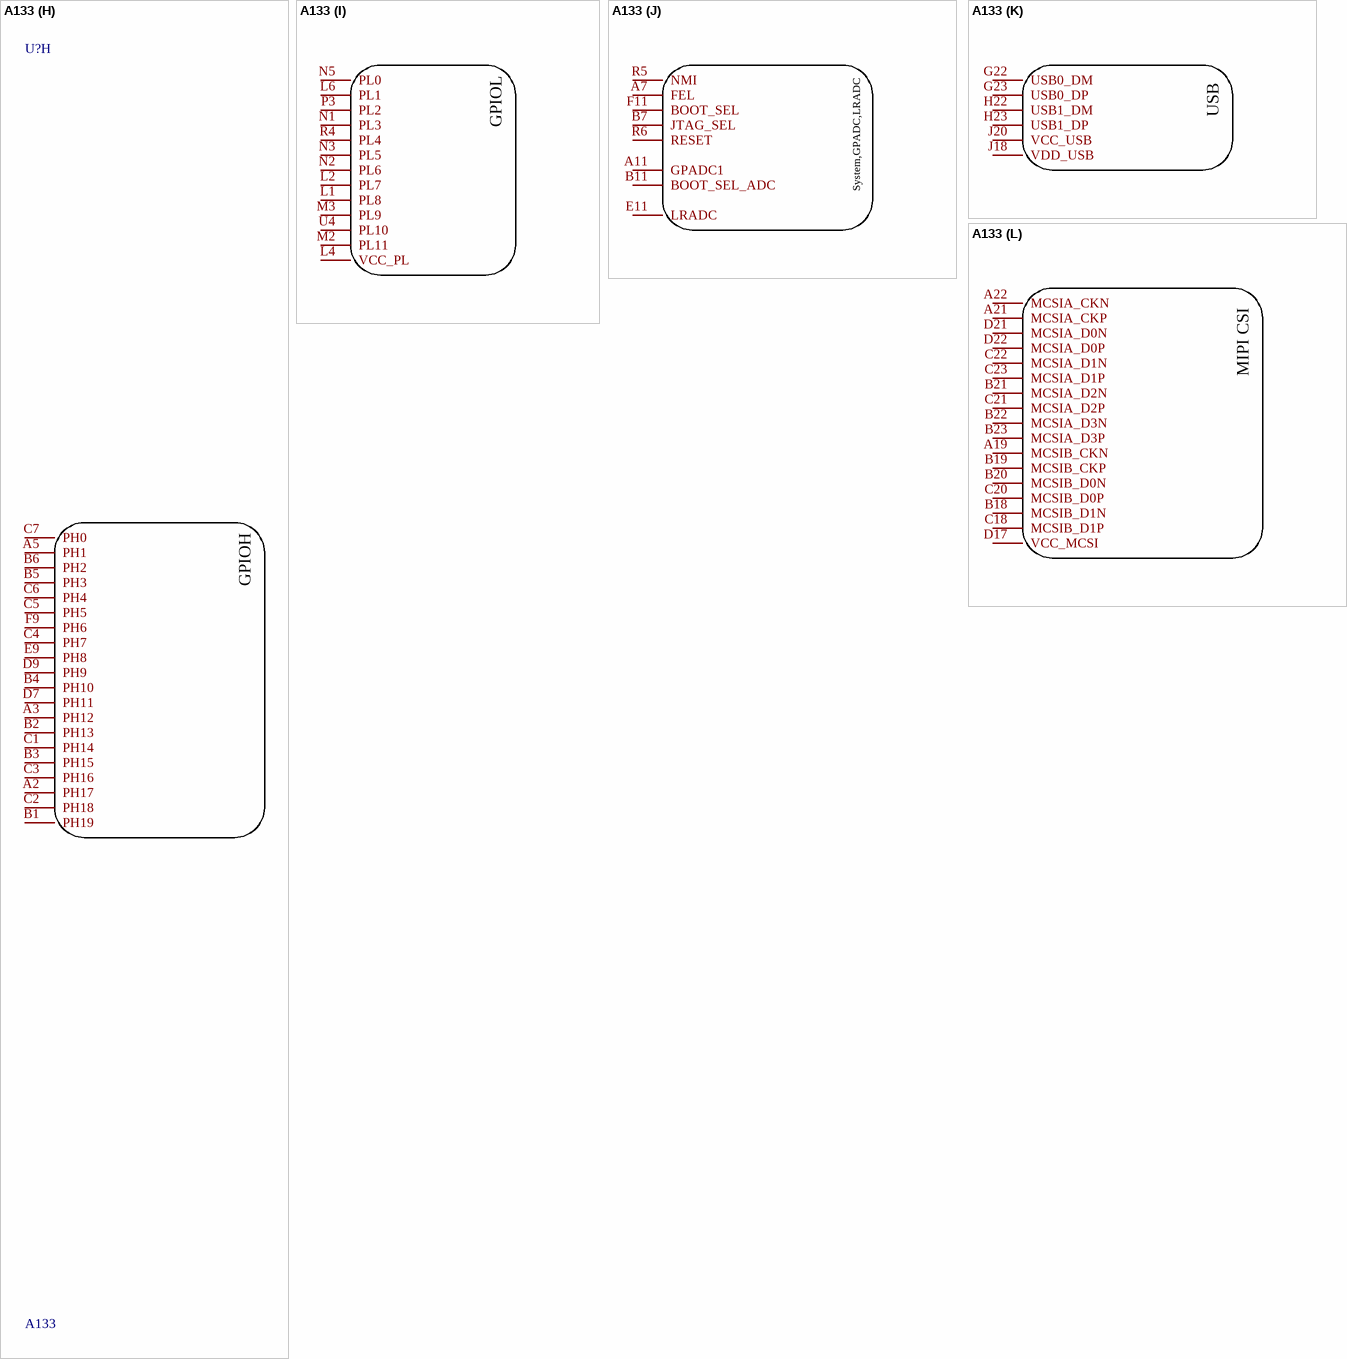
[diagram p7: symbol A133]

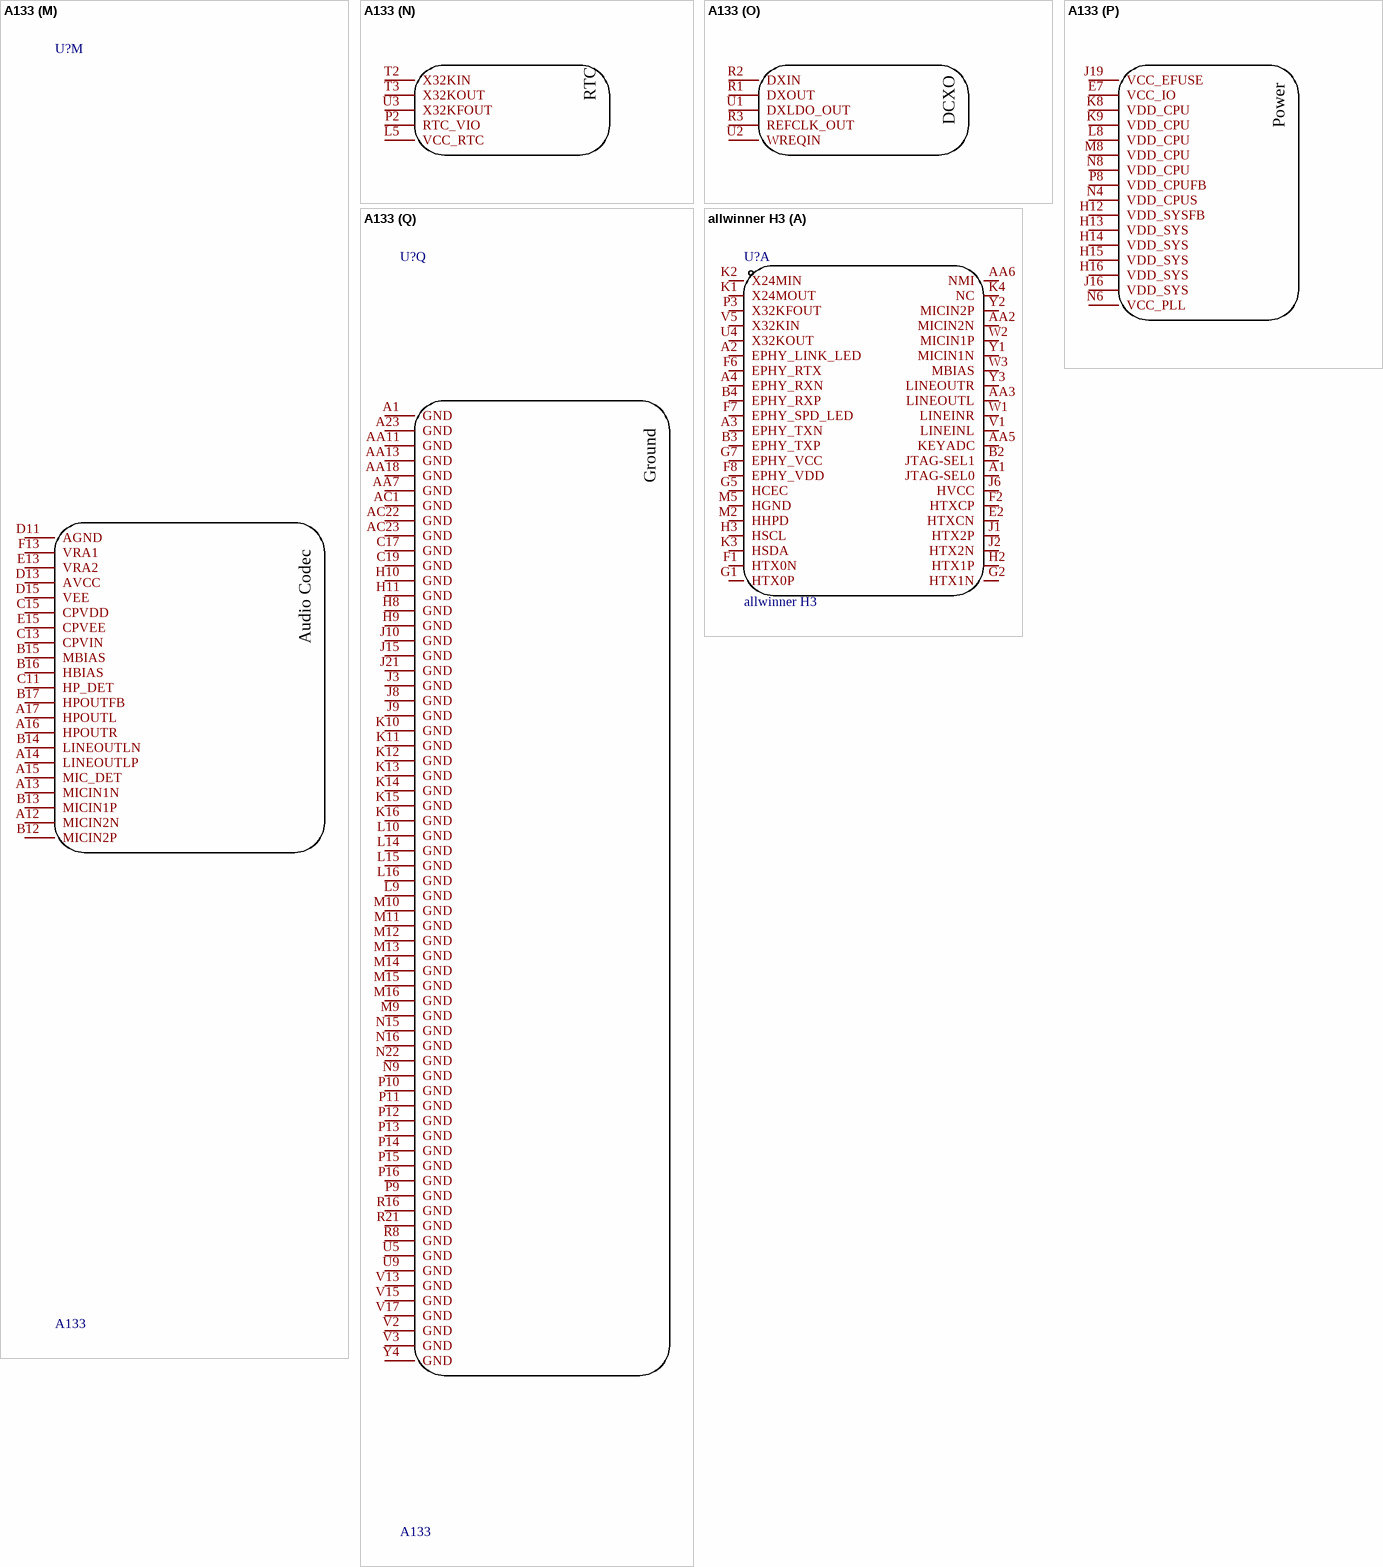
[diagram p8: symbols A133 to allwinner H3]

## A133
designator U?
CPU Core:- CPU Maximum Speed:- Operating Voltage Range:- Operating Voltage Range:- Program Storage Size:- Program Memory Type:- RAM Size:- EEPROM:- GPIO Ports Number:- ADC (Bit):- DAC (Bit):- PWM (Bit):- 8Bit Timer:- 16Bit Timer:- 32Bit Timer:- CAN:- UART; Manufacturer: Allwinner(全志); Add into BOM: yes; Name: A133; Symbol: A133; Device: A133; LCSC Part Name: Allwinner A133; Supplier Part: C2997892; Manufacturer Part: A133; Supplier Footprint: LFBGA-346; JLCPCB Part Class: Extended Part; Datasheet: https://atta.szlcsc.com/upload/public/pdf/source/20220418/6383FE30D096E31129B071D4E6D5C85B.pdf; Supplier: LCSC; Convert to PCB: yes; CPU Core: -; CPU Maximum Speed: -; Operating Voltage Range: -; Program Storage Size: -; Program Memory Type: -; RAM Size: -; EEPROM: -; GPIO Ports Number: -; ADC (Bit): -; DAC (Bit): -; PWM (Bit): -; 8Bit Timer: -; 16Bit Timer: -; 32Bit Timer: -; CAN: -; UART/USART: -; I2C: -; I2S: -; SPI: -; Universal Serial Bus: -; Internal Comparator: -; Peripheral/Function: -; communication protocol: -; Watchdog: -; Real-Time Clock: -; Infrared Data Association: -; Low-Voltage Detect: -; CCP Capture/Compare: -; LCD Module: -; LED Module: -; Secure Digital Input and Output: -; Direct Memory Access: -; Internal Oscillator: -; Operating Temperature Range: -
footprint LFBGA-346_L12.0-W12.0-P0.50-TL_ALLWINNER_A133
3D model LFBGA-346_L12.0-W12.0-P0.50-TL_ALLWINNER_A133
part A pins: AA1 SDQ8, AA2 SDQ15, AA3 SDQ14, AA4 SDQ13, AA5 SDQM1, AA6 SDQ22, AA8 SDQ18, AA9 SDQM2, AA10 SDQS3N, AA12 SA2, AA14 SCKP, AA15 SCKE1, AA16 SCKE0, AA17 SA0, AA19 SA9, AA20 SACT, AA21 SODT0, AB1 SDQ10, AB2 SDQS1P, AB3 SDQ11, AB4 SDQ9, AB5 SDQ21, AB6 SDQ23, AB7 SDQS2P, AB8 SDQ19, AB9 SDQ17, AB10 SDQS3P, AB11 SDQ30, AB12 SA15, AB13 SA1, AB14 SCKN, AB15 SA16, AB16 SA13, AB17 SBG0, AB18 SA8, AB19 SCS1, AB20 SBG1, AC2 SDQS1N, AC3 SDQ12, AC5 SDQ20, AC7 SDQS2N, AC9 SDQ16, AC11 SDQ28, AC13 SA14, AC15 SCS0, AC17 SA10, AC19 SA11, AC21 SODT1, R9 VCC_DRAM, R10 VCC_DRAM, R11 VCC_DRAM, R12 VCC_DRAM, R13 VCC_DRAM, R14 VCC_DRAM, R15 VDD18_DRAM, U7 SDQM0, U11 SDQM3, U13 SA4, U15 SA3, U17 SRST, V7 SDQ1, V9 SDQ26, V11 SDQ31, W1 SDQ4, W2 SDQ6, W3 SDQ7, W4 SDQ5, W7 SDQ3, W9 SDQ25, W11 SDQ29, W13 SA5, W15 SBA0, W17 SA7, Y2 SDQS0P, Y3 SDQS0N, Y5 SDQ2, Y7 SDQ0, Y9 SDQ27, Y11 SDQ24, Y13 SA6, Y15 SBA1, Y17 SA12, Y19 SZQ
part B pins: D2 PB5, D3 PB4, D4 PB1, D5 PB3, E1 PB8, E2 PB7, E3 PB6, E5 PB0, F2 PB9, F3 PB10, G4 PB2
part C pins: J22 PC11, J23 PC15, K21 PC14, K22 PC10, L18 VCC_PC, L19 PC12, L20 PC16, L21 PC13, L22 PC6, L23 PC4, M21 PC2, M22 PC3, N19 PC0, N20 PC7, N21 PC9, N23 PC5, P21 PC8, P22 PC1
part D pins: AA22 PD4, AA23 PD5, AB22 PD8, AB23 PD9, N18 VCC_LVDS0, R18 VCC_PD, R19 PD23, R20 PD22, R22 PD10, R23 PD11, T21 PD12, T22 PD13, U18 PD21, U19 PD20, U20 PD17, U21 PD16, U22 PD14, U23 PD15, V22 PD0, V23 PD1, W20 PD19, W21 PD18, W22 PD2, W23 PD3, Y22 PD6, Y23 PD7
part E pins: D19 PE3, E17 VCC_PE, E20 PE1, E21 PE9, E22 PE7, E23 PE0, F22 PE6, F23 PE8, G19 PE5, G20 PE2, G21 PE4
part F pins: A9 PF2, B8 PF4, B9 PF3, B10 PF0, C8 PF5, C9 PF1, C10 PF6
part G pins: G1 PG2, G2 PG4, G3 PG3, G5 PG11, G6 PG12, H2 PG1, H3 PG5, J1 PG10, J2 PG0, J4 PG13, J5 PG7, J6 VCC_PG, K2 PG6, K3 PG8, L3 PG9
part H pins: A2 PH17, A3 PH12, A5 PH1, B1 PH19, B2 PH13, B3 PH15, B4 PH10, B5 PH3, B6 PH2, C1 PH14, C2 PH18, C3 PH16, C4 PH7, C5 PH5, C6 PH4, C7 PH0, D7 PH11, D9 PH9, E9 PH8, F9 PH6
part I pins: L1 PL8, L2 PL7, L4 VCC_PL, L6 PL1, M2 PL11, M3 PL9, N1 PL3, N2 PL6, N3 PL5, N5 PL0, P3 PL2, R4 PL4, U4 PL10
part J pins: A7 FEL, A11 GPADC1, B7 JTAG_SEL, B11 BOOT_SEL_ADC, E11 LRADC, F11 BOOT_SEL, R5 NMI, R6 RESET
part K pins: G22 USB0_DM, G23 USB0_DP, H22 USB1_DM, H23 USB1_DP, J18 VDD_USB, J20 VCC_USB
part L pins: A19 MCSIB_CKN, A21 MCSIA_CKP, A22 MCSIA_CKN, B18 MCSIB_D1N, B19 MCSIB_CKP, B20 MCSIB_D0N, B21 MCSIA_D2N, B22 MCSIA_D3N, B23 MCSIA_D3P, C18 MCSIB_D1P, C20 MCSIB_D0P, C21 MCSIA_D2P, C22 MCSIA_D1N, C23 MCSIA_D1P, D17 VCC_MCSI, D21 MCSIA_D0N, D22 MCSIA_D0P
part M pins: A12 MICIN2N, A13 MICIN1N, A14 LINEOUTLP, A15 MIC_DET, A16 HPOUTR, A17 HPOUTL, B12 MICIN2P, B13 MICIN1P, B14 LINEOUTLN, B15 MBIAS, B16 HBIAS, B17 HPOUTFB, C11 HP_DET, C13 CPVIN, C15 CPVDD, D11 AGND, D13 AVCC, D15 VEE, E13 VRA2, E15 CPVEE, F13 VRA1
part N pins: L5 VCC_RTC, P2 RTC_VIO, T2 X32KIN, T3 X32KOUT, U3 X32KFOUT
part O pins: R1 DXOUT, R2 DXIN, R3 REFCLK_OUT, U1 DXLDO_OUT, U2 WREQIN
part P pins: E7 VCC_IO, H12 VDD_SYSFB, H13 VDD_SYS, H14 VDD_SYS, H15 VDD_SYS, H16 VDD_SYS, J16 VDD_SYS, J19 VCC_EFUSE, K8 VDD_CPU, K9 VDD_CPU, L8 VDD_CPU, M8 VDD_CPU, N4 VDD_CPUS, N6 VCC_PLL, N8 VDD_CPU, P8 VDD_CPUFB
part Q pins: A1 GND, A23 GND, AA7 GND, AA11 GND, AA13 GND, AA18 GND, AC1 GND, AC22 GND, AC23 GND, C17 GND, C19 GND, H8 GND, H9 GND, H10 GND, H11 GND, J3 GND, J8 GND, J9 GND, J10 GND, J15 GND, J21 GND, K10 GND, K11 GND, K12 GND, K13 GND, K14 GND, K15 GND, K16 GND, L9 GND, L10 GND, L14 GND, L15 GND, L16 GND, M9 GND, M10 GND, M11 GND, M12 GND, M13 GND, M14 GND, M15 GND, M16 GND, N9 GND, N15 GND, N16 GND, N22 GND, P9 GND, P10 GND, P11 GND, P12 GND, P13 GND, P14 GND, P15 GND, P16 GND, R8 GND, R16 GND, R21 GND, U5 GND, U9 GND, V2 GND, V3 GND, V13 GND, V15 GND, V17 GND, Y4 GND
part A text: SDRAM
part B text: GPIOB
part C text: GPIOC
part D text: GPIOD
part E text: GPIOE
part F text: GPIOF
part G text: GPIOG
part H text: GPIOH
part I text: GPIOL
part J text: System,GPADC,LRADC
part K text: USB
part L text: MIPI CSI
part M text: Audio Codec
part N text: RTC
part O text: DCXO
part P text: Power
part Q text: Ground

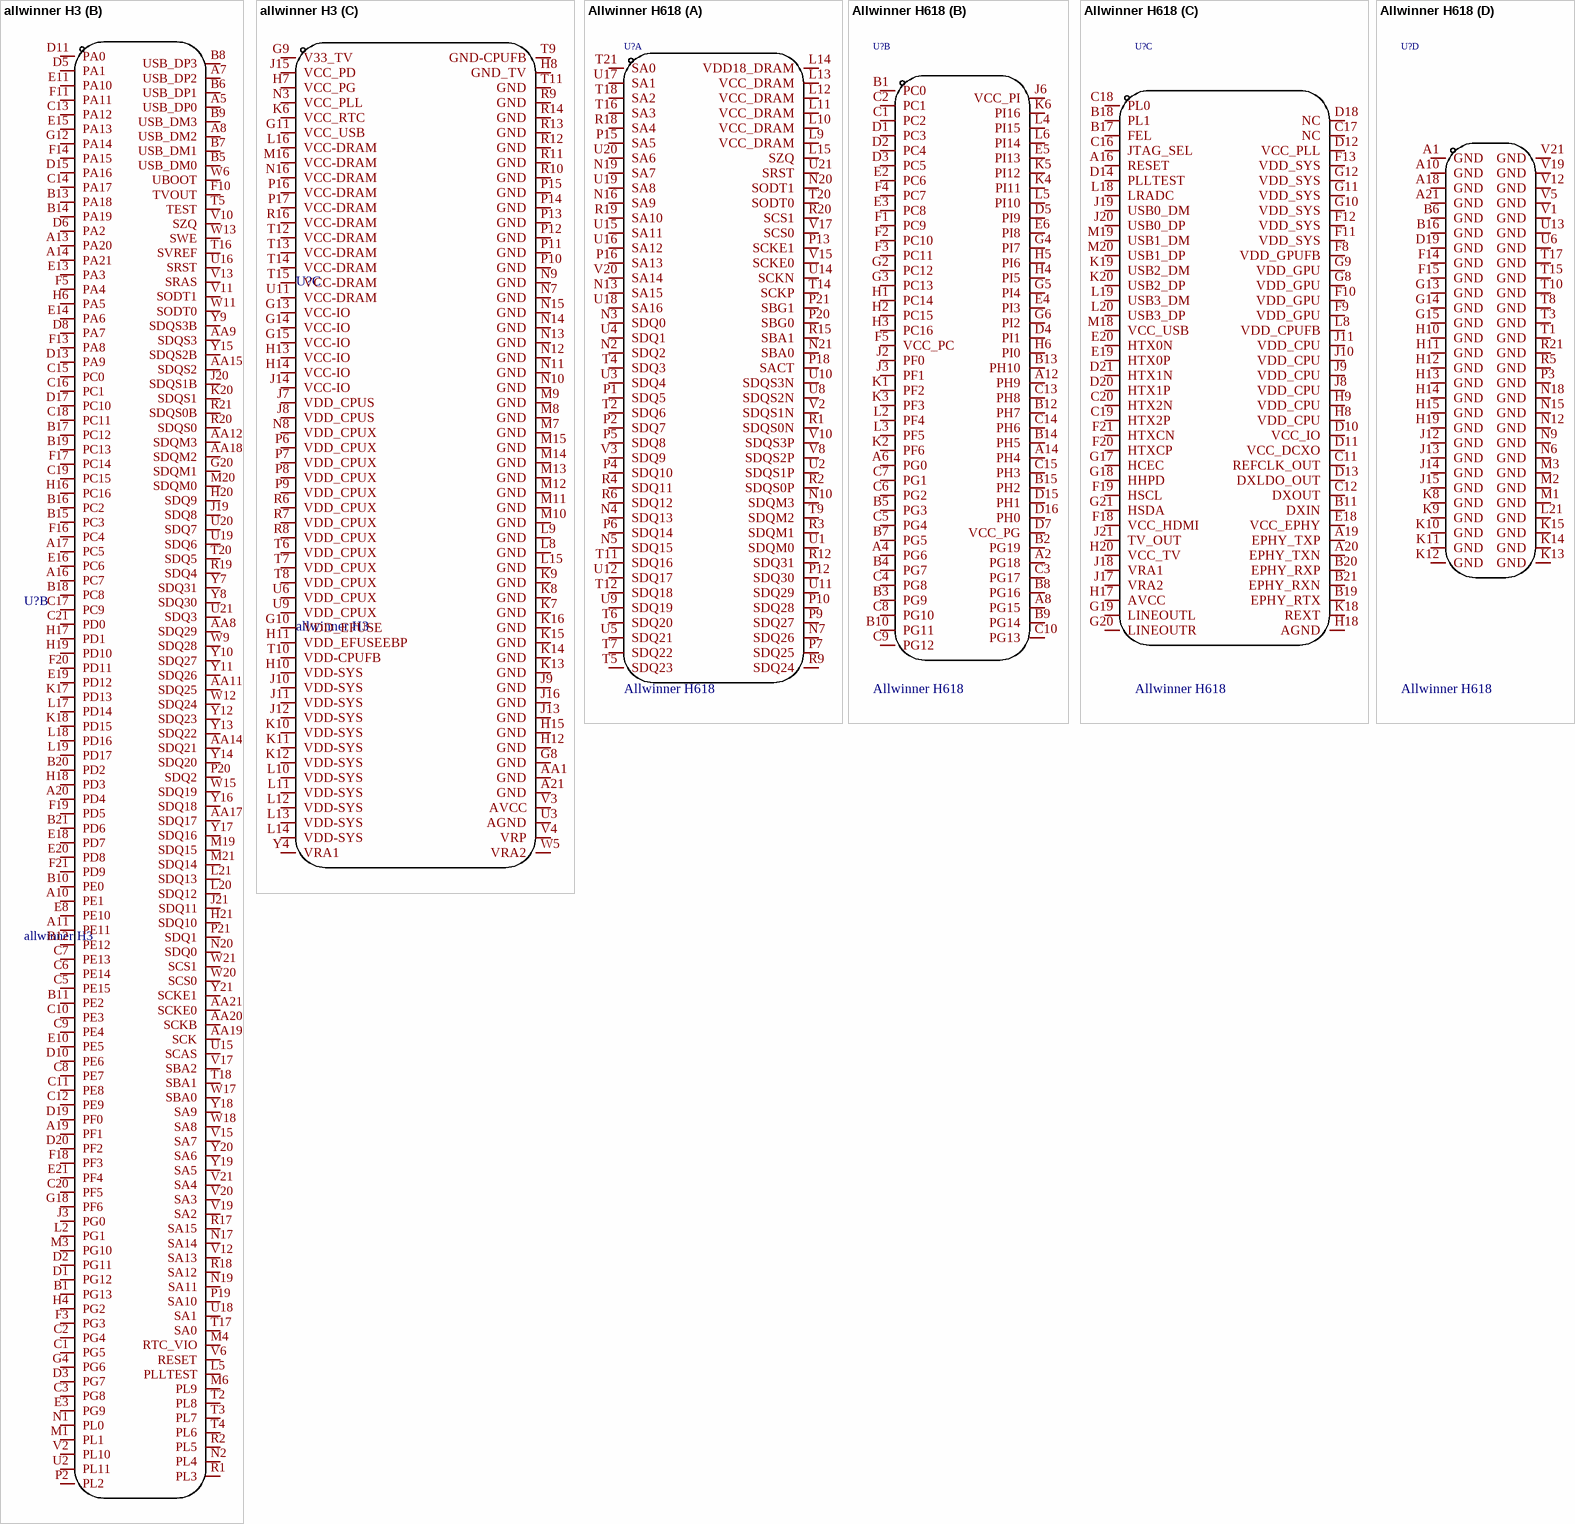
[diagram p9: symbols allwinner H3 to Allwinner H618]

## allwinner H3
designator U?
Core Size: Program Memory Type: Core Processor: Speed: Voltage - Supply (Vcc/Vdd): Program Memory Size: RAM Size: EEPROM Size: Number of I/O: A/D: D/A: PWM: LCD: UART/USART: SPI: I2C（SMBUS/PMBUS）: USB Device: USB Host/OTG: CAN: Ethernet: Features:; Add into BOM: yes; Name: allwinner H3; Symbol: ALLWINNER H3; Device: allwinner H3; LCSC Part Name: allwinner H3; Supplier Part: C2836812; Manufacturer Part: allwinner H3; Supplier Footprint: BGA-347(14x14x0.65); JLCPCB Part Class: Extended Part; Datasheet: 2021-05-25/13829W/554ffe7da80d45998778cecdd31bae98/Allwinner_H3_Datasheet.pdf; Supplier: LCSC; Convert to PCB: yes
footprint BGA-347_L14.0-W14.0-R21-C21-P0.65-TL
3D model BGA-347_L14.0-W14.0-R21-C21-P0.65-TL
part A pins: A1 JTAG-SEL0, A2 EPHY_LINK_LED, A3 EPHY_TXN, A4 EPHY_RXN, AA2 MICIN2N, AA3 LINEOUTL, AA5 KEYADC, AA6 NMI, B2 JTAG-SEL1, B3 EPHY_TXP, B4 EPHY_RXP, E2 HTXCN, F1 HTX0N, F2 HTXCP, F6 EPHY_RTX, F7 EPHY_SPD_LED, F8 EPHY_VDD, G1 HTX0P, G2 HTX1N, G5 HCEC, G7 EPHY_VCC, H2 HTX1P, H3 HSCL, J1 HTX2P, J2 HTX2N, J6 HVCC, K1 X24MOUT, K2 X24MIN, K3 HSDA, K4 NC, M2 HHPD, M5 HGND, P3 X32KFOUT, U4 X32KOUT, V1 LINEINL, V5 X32KIN, W1 LINEINR, W2 MICIN1P, W3 MBIAS, Y1 MICIN1N, Y2 MICIN2P, Y3 LINEOUTR
part B pins: A5 USB_DP0, A7 USB_DP2, A8 USB_DM2, A10 PE1, A11 PE11, A13 PA20, A14 PA21, A16 PC7, A17 PC5, A19 PF1, A20 PD4, AA8 SDQ29, AA9 SDQS3, AA11 SDQ25, AA12 SDQM3, AA14 SDQ21, AA15 SDQS2, AA17 SDQ17, AA18 SDQM2, AA19 SCK, AA20 SCKB, AA21 SCKE0, B1 PG13, B5 USB_DM0, B6 USB_DP1, B7 USB_DM1, B8 USB_DP3, B9 USB_DM3, B10 PE0, B11 PE2, B12 PE12, B13 PA18, B14 PA19, B15 PC3, B16 PC2, B17 PC12, B18 PC8, B19 PC13, B20 PD2, B21 PD6, C1 PG5, C2 PG4, C3 PG8, C5 PE15, C6 PE14, C7 PE13, C8 PE7, C9 PE4, C10 PE3, C11 PE8, C12 PE9, C13 PA12, C14 PA17, C15 PC0, C16 PC1, C17 PC9, C18 PC11, C19 PC15, C20 PF5, C21 PD0, D1 PG12, D2 PG11, D3 PG7, D5 PA1, D6 PA2, D8 PA7, D10 PE6, D11 PA0, D13 PA9, D15 PA16, D17 PC10, D19 PF0, D20 PF2, E3 PG9, E8 PE10, E10 PE5, E11 PA10, E13 PA3, E14 PA6, E15 PA13, E16 PC6, E18 PD7, E19 PD12, E20 PD8, E21 PF4, F3 PG3, F5 PA4, F10 TVOUT, F11 PA11, F13 PA8, F14 PA15, F16 PC4, F17 PC14, F18 PF3, F19 PD5, F20 PD11, F21 PD9, G4 PG6, G12 PA14, G18 PF6, G20 SDQM1, H4 PG2, H6 PA5, H16 PC16, H17 PD1, H18 PD3, H19 PD10, H20 SDQ9, H21 SDQ10, J3 PG0, J19 SDQ8, J20 SDQS1B, J21 SDQ11, K17 PD13, K18 PD15, K20 SDQS1, L2 PG1, L5 PLLTEST, L17 PD14, L18 PD16, L19 PD17, L20 SDQ12, L21 SDQ13, M1 PL1, M3 PG10, M4 RTC_VIO, M6 PL9, M19 SDQ15, M20 SDQM0, M21 SDQ14, N1 PL0, N2 PL4, N17 SA14, N19 SA11, N20 SDQ0, P2 PL2, P19 SA10, P20 SDQ2, P21 SDQ1, R1 PL3, R2 PL5, R17 SA15, R18 SA12, R19 SDQ4, R20 SDQS0, R21 SDQS0B, T2 PL8, T3 PL7, T4 PL6, T5 TEST, T16 SVREF, T17 SA0, T18 SBA1, T20 SDQ5, U2 PL11, U15 SCAS, U16 SRST, U18 SA1, U19 SDQ6, U20 SDQ7, U21 SDQ3, V2 PL10, V6 RESET, V10 SZQ, V11 SODT1, V12 SA13, V13 SRAS, V15 SA7, V17 SBA2, V19 SA2, V20 SA3, V21 SA4, W6 UBOOT, W9 SDQ28, W11 SODT0, W12 SDQ24, W13 SWE, W15 SDQ19, W17 SBA0, W18 SA8, W20 SCS0, W21 SCS1, Y7 SDQ31, Y8 SDQ30, Y9 SDQS3B, Y10 SDQ27, Y11 SDQ26, Y12 SDQ23, Y13 SDQ22, Y14 SDQ20, Y15 SDQS2B, Y16 SDQ18, Y17 SDQ16, Y18 SA9, Y19 SA5, Y20 SA6, Y21 SCKE1
part C pins: A21 GND, AA1 GND, G8 GND, G9 V33_TV, G10 VDD_EFUSE, G11 VCC_USB, G13 VCC-IO, G14 VCC-IO, G15 VCC-IO, H7 VCC_PG, H8 GND_TV, H10 VDD-SYS, H11 VDD_EFUSEEBP, H12 GND, H13 VCC-IO, H14 VCC-IO, H15 GND, J7 VDD_CPUS, J8 VDD_CPUS, J9 GND, J10 VDD-SYS, J11 VDD-SYS, J12 VDD-SYS, J13 GND, J14 VCC-IO, J15 VCC_PD, J16 GND, K6 VCC_RTC, K7 GND, K8 GND, K9 GND, K10 VDD-SYS, K11 VDD-SYS, K12 VDD-SYS, K13 GND, K14 GND, K15 GND, K16 GND, L8 GND, L9 GND, L10 VDD-SYS, L11 VDD-SYS, L12 VDD-SYS, L13 VDD-SYS, L14 VDD-SYS, L15 GND, L16 VCC-DRAM, M7 GND, M8 GND, M9 GND, M10 GND, M11 GND, M12 GND, M13 GND, M14 GND, M15 GND, M16 VCC-DRAM, N3 VCC_PLL, N7 GND, N8 VDD_CPUX, N9 GND, N10 GND, N11 GND, N12 GND, N13 GND, N14 GND, N15 GND, N16 VCC-DRAM, P6 VDD_CPUX, P7 VDD_CPUX, P8 VDD_CPUX, P9 VDD_CPUX, P10 GND, P11 GND, P12 GND, P13 GND, P14 GND, P15 GND, P16 VCC-DRAM, P17 VCC-DRAM, R6 VDD_CPUX, R7 VDD_CPUX, R8 VDD_CPUX, R9 GND, R10 GND, R11 GND, R12 GND, R13 GND, R14 GND, R16 VCC-DRAM, T6 VDD_CPUX, T7 VDD_CPUX, T8 VDD_CPUX, T9 GND-CPUFB, T10 VDD-CPUFB, T11 GND, T12 VCC-DRAM, T13 VCC-DRAM, T14 VCC-DRAM, T15 VCC-DRAM, U3 AGND, U6 VDD_CPUX, U9 VDD_CPUX, U11 VCC-DRAM, V3 AVCC, V4 VRP, W5 VRA2, Y4 VRA1

## Allwinner H618
designator U?
Add into BOM: yes; Name: Allwinner H618; Symbol: ALLWINNER H618; Device: Allwinner H618; LCSC Part Name: Allwinner H618; Supplier Part: C9900058061; Manufacturer Part: Allwinner H618; Supplier Footprint: TFBGA284; Supplier: LCSC; Convert to PCB: yes
footprint BGA-284_L14.0-W12.0-P0.65-TL
3D model BGA-284_L14.0-W12.0-P0.65-TL
part A pins: L9 VCC_DRAM, L10 VCC_DRAM, L11 VCC_DRAM, L12 VCC_DRAM, L13 VCC_DRAM, L14 VDD18_DRAM, L15 SZQ, N2 SDQ2, N3 SDQ0, N4 SDQ13, N5 SDQ15, N7 SDQ26, N10 SDQM3, N13 SA15, N16 SA9, N19 SA7, N20 SODT1, N21 SBA0, P1 SDQ5, P2 SDQ7, P4 SDQ10, P5 SDQ8, P6 SDQ14, P7 SDQ25, P9 SDQ27, P10 SDQ28, P12 SDQ30, P13 SCKE1, P15 SA5, P16 SA13, P18 SACT, P20 SBG0, P21 SBG1, R1 SDQS0N, R2 SDQS0P, R3 SDQM1, R4 SDQ11, R6 SDQ12, R9 SDQ24, R12 SDQ31, R15 SBA1, R18 SA4, R19 SA10, R20 SCS1, T2 SDQ6, T4 SDQ3, T5 SDQ23, T6 SDQ20, T7 SDQ22, T9 SDQM2, T11 SDQ16, T12 SDQ18, T14 SCKP, T16 SA3, T18 SA2, T20 SODT0, T21 SA0, U1 SDQM0, U2 SDQS1P, U3 SDQ4, U4 SDQ1, U5 SDQ21, U8 SDQS2N, U9 SDQ19, U10 SDQS3N, U11 SDQ29, U12 SDQ17, U14 SCKN, U15 SA11, U16 SA12, U17 SA1, U18 SA16, U19 SA8, U20 SA6, U21 SRST, V2 SDQS1N, V3 SDQ9, V8 SDQS2P, V10 SDQS3P, V15 SCKE0, V17 SCS0, V20 SA14
part B pins: A2 PG18, A4 PG6, A6 PG0, A8 PG15, A12 PH9, A14 PH4, B1 PC0, B2 PG19, B3 PG9, B4 PG7, B5 PG3, B7 PG5, B8 PG16, B9 PG14, B10 PG11, B12 PH7, B13 PH10, B14 PH5, B15 PH2, C1 PC2, C2 PC1, C3 PG17, C4 PG8, C5 PG4, C6 PG2, C7 PG1, C8 PG10, C9 PG12, C10 PG13, C13 PH8, C14 PH6, C15 PH3, D1 PC3, D2 PC4, D3 PC5, D4 PI1, D5 PI9, D7 VCC_PG, D15 PH1, D16 PH0, E2 PC6, E3 PC8, E4 PI3, E5 PI13, E6 PI8, F1 PC9, F2 PC10, F3 PC11, F4 PC7, F5 VCC_PC, G2 PC12, G3 PC13, G4 PI7, G5 PI4, G6 PI2, H1 PC14, H2 PC15, H3 PC16, H4 PI5, H5 PI6, H6 PI0, J2 PF0, J3 PF1, J6 VCC_PI, K1 PF2, K2 PF6, K3 PF3, K4 PI11, K5 PI12, K6 PI16, L2 PF4, L3 PF5, L4 PI15, L5 PI10, L6 PI14
part C pins: A16 RESET, A19 EPHY_TXP, A20 EPHY_TXN, B11 DXIN, B17 FEL, B18 PL1, B19 EPHY_RTX, B20 EPHY_RXP, B21 EPHY_RXN, C11 REFCLK_OUT, C12 DXOUT, C16 JTAG_SEL, C17 NC, C18 PL0, C19 HTX2P, C20 HTX2N, D10 VCC_IO, D11 VCC_DCXO, D12 VCC_PLL, D13 DXLDO_OUT, D14 PLLTEST, D18 NC, D20 HTX1P, D21 HTX1N, E18 VCC_EPHY, E19 HTX0P, E20 HTX0N, F8 VDD_GPUFB, F9 VDD_GPU, F10 VDD_GPU, F11 VDD_SYS, F12 VDD_SYS, F13 VDD_SYS, F18 VCC_HDMI, F19 HSCL, F20 HTXCP, F21 HTXCN, G8 VDD_GPU, G9 VDD_GPU, G10 VDD_SYS, G11 VDD_SYS, G12 VDD_SYS, G17 HCEC, G18 HHPD, G19 LINEOUTL, G20 LINEOUTR, G21 HSDA, H8 VDD_CPU, H9 VDD_CPU, H17 AVCC, H18 AGND, H20 VCC_TV, J8 VDD_CPU, J9 VDD_CPU, J10 VDD_CPU, J11 VDD_CPU, J17 VRA2, J18 VRA1, J19 USB0_DM, J20 USB0_DP, J21 TV_OUT, K18 REXT, K19 USB2_DM, K20 USB2_DP, L8 VDD_CPUFB, L18 LRADC, L19 USB3_DM, L20 USB3_DP, M18 VCC_USB, M19 USB1_DM, M20 USB1_DP
part D pins: A1 GND, A10 GND, A18 GND, A21 GND, B6 GND, B16 GND, D19 GND, F14 GND, F15 GND, G13 GND, G14 GND, G15 GND, H10 GND, H11 GND, H12 GND, H13 GND, H14 GND, H15 GND, H19 GND, J12 GND, J13 GND, J14 GND, J15 GND, K8 GND, K9 GND, K10 GND, K11 GND, K12 GND, K13 GND, K14 GND, K15 GND, L21 GND, M1 GND, M2 GND, M3 GND, N6 GND, N9 GND, N12 GND, N15 GND, N18 GND, P3 GND, R5 GND, R21 GND, T1 GND, T3 GND, T8 GND, T10 GND, T15 GND, T17 GND, U6 GND, U13 GND, V1 GND, V5 GND, V12 GND, V19 GND, V21 GND

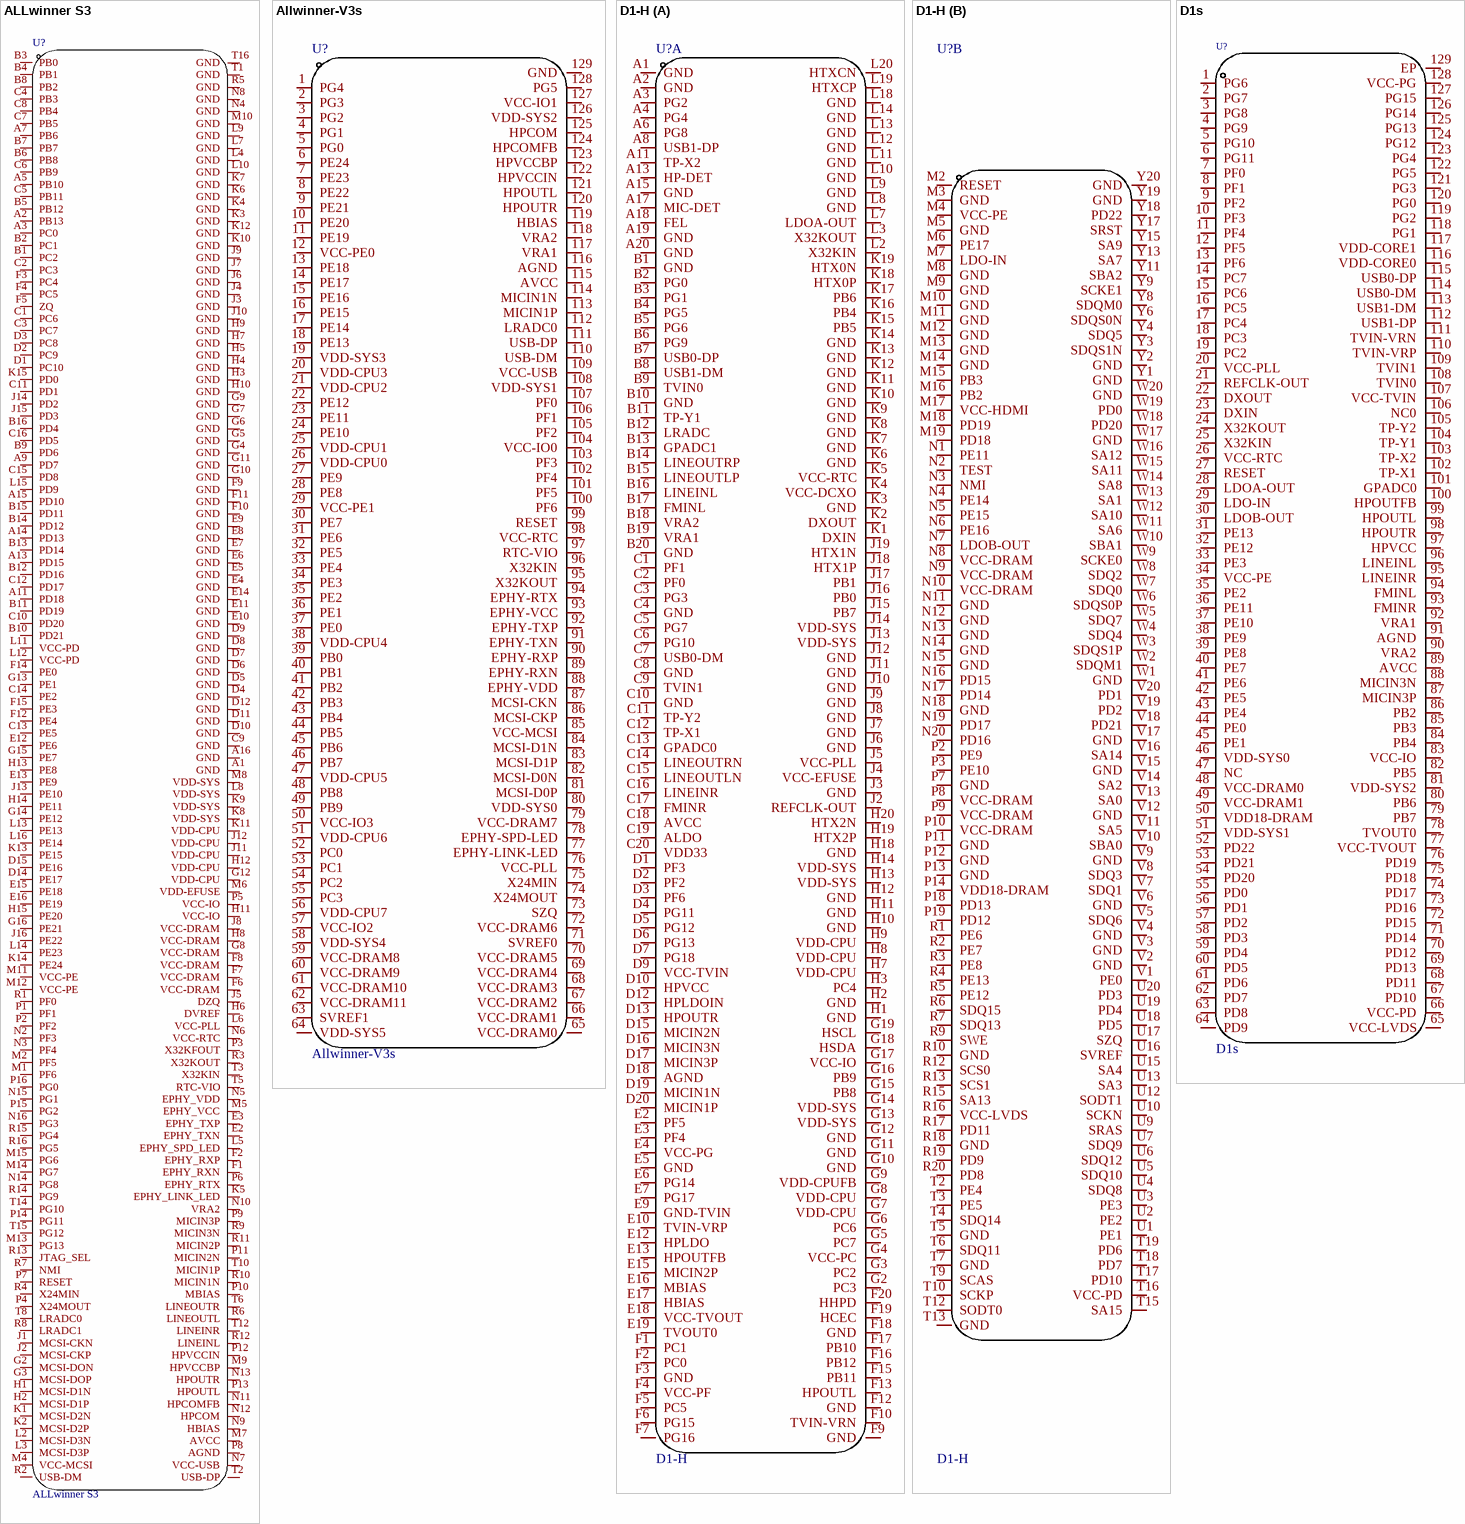
[diagram p10: symbols ALLwinner S3 to D1s]

## ALLwinner S3
designator U?
Add into BOM: yes; Name: ALLwinner S3; Symbol: ALLWINNER S3; Device: ALLwinner S3; LCSC Part Name: ALLwinner S3; Supplier Part: C2886811; Manufacturer Part: ALLwinner S3; Supplier Footprint: FBGA-153(11x11x0.65); JLCPCB Part Class: Extended Part; Datasheet: 2021-08-13/391136A/edf52191a9394b22bbd85781f745e657/S3_Datasheet.pdf; Supplier: LCSC; Convert to PCB: yes
footprint FBGA-234_ALLWINNER-S3
3D model FBGA-234_ALLWINNER-S3
pins: A1 GND, A2 PB13, A3 PC0, A5 PB10, A7 PB6, A9 PD7, A11 PD18, A13 PD15, A14 PD13, A15 PD10, A16 GND, B1 PC2, B2 PC1, B3 PB0, B4 PB1, B5 PB12, B6 PB8, B7 PB7, B8 PB2, B9 PD6, B10 PD21, B11 PD19, B12 PD16, B13 PD14, B14 PD12, B15 PD11, B16 PD4, C1 PC6, C2 PC3, C3 PC7, C4 PB3, C5 PB11, C6 PB9, C7 PB5, C8 PB4, C9 GND, C10 PD20, C11 PD1, C12 PD17, C13 PE5, C14 PE2, C15 PD8, C16 PD5, D1 PC10, D2 PC9, D3 PC8, D4 GND, D5 GND, D6 GND, D7 GND, D8 GND, D9 GND, D10 GND, D11 GND, D12 GND, D14 PE17, D15 PE16, E2 EPHY_TXN, E3 EPHY_TXP, E4 GND, E5 GND, E6 GND, E7 GND, E8 GND, E9 GND, E10 GND, E11 GND, E12 PE6, E13 PE9, E14 GND, E15 PE18, E16 PE19, F1 EPHY_RXN, F2 EPHY_RXP, F3 PC4, F4 PC5, F5 ZQ, F6 VCC-DRAM, F7 VCC-DRAM, F8 VCC-DRAM, F9 GND, F10 GND, F11 GND, F12 PE4, F14 PE0, F15 PE3, G2 MCSI-DON, G3 MCSI-DOP, G4 GND, G5 GND, G6 GND, G7 GND, G8 VCC-DRAM, G9 GND, G10 GND, G11 GND, G12 VDD-CPU, G13 PE1, G14 PE12, G15 PE7, G16 PE21, H1 MCSI-D1N, H2 MCSI-D1P, H3 GND, H4 GND, H5 GND, H6 DVREF, H7 GND, H8 VCC-DRAM, H9 GND, H10 GND, H11 VCC-IO, H12 VDD-CPU, H13 PE8, H14 PE11, H15 PE20, J1 MCSI-CKN, J2 MCSI-CKP, J3 GND, J4 GND, J5 DZQ, J6 GND, J7 GND, J8 VCC-DRAM, J9 GND, J10 GND, J11 VDD-CPU, J12 VDD-CPU, J13 PE10, J14 PD2, J15 PD3, J16 PE22, K1 MCSI-D2N, K2 MCSI-D2P, K3 GND, K4 GND, K5 EPHY_LINK_LED, K6 GND, K7 GND, K8 VDD-SYS, K9 VDD-SYS, K10 GND, K11 VDD-CPU, K12 GND, K13 PE15, K14 PE24, K15 PD0, L2 MCSI-D3N, L3 MCSI-D3P, L4 GND, L5 EPHY_SPD_LED, L6 VCC-PLL, L7 GND, L8 VDD-SYS, L9 GND, L10 GND, L11 VCC-PD, L12 VCC-PD, L13 PE13, L14 PE23, L15 PD9, L16 PE14, M1 PF6, M2 PF5, M4 VCC-MCSI, M5 EPHY_VCC, M6 VDD-EFUSE, M7 AVCC, M8 VDD-SYS, M9 HPVCCBP, M10 GND, M11 VCC-PE, M12 VCC-PE, M13 PG13, M14 PG7, M15 PG6, N2 PF3, N3 PF4, N4 GND, N5 EPHY_VDD, N6 VCC-RTC, N7 VCC-USB, N8 GND, N9 HBIAS, N10 VRA2, N11 HPCOMFB, N12 HPCOM, N13 HPOUTR, N14 PG8, N15 PG1, N16 PG3, P1 PF1, P2 PF2, P3 X32KFOUT, P4 X24MOUT, P5 VCC-IO, P6 EPHY_RTX, P7 RESET, P8 AGND, P9 MICIN3P, P10 MBIAS, P11 MICIN2N, P12 HPVCCIN, P13 HPOUTL, P14 PG11, P15 PG2, P16 PG0, R1 PF0, R2 USB-DM, R3 X32KOUT, R4 X24MIN, R5 GND, R6 LINEOUTL, R7 NMI, R8 LRADC1, R9 MICIN3N, R10 MICIN1N, R11 MICIN2P, R12 LINEINL, R13 JTAG_SEL, R14 PG9, R15 PG4, R16 PG5, T1 GND, T2 USB-DP, T3 X32KIN, T5 RTC-VIO, T6 LINEOUTR, T8 LRADC0, T10 MICIN1P, T12 LINEINR, T14 PG10, T15 PG12, T16 GND

## Allwinner-V3s
designator U?
Add into BOM: yes; Name: Allwinner-V3s; Symbol: ALLWINNER-V3S; Device: Allwinner-V3s; LCSC Part Name: Allwinner-V3s; Supplier Part: C9900008288; Manufacturer Part: Allwinner-V3s; Supplier Footprint: LQFP-128; JLCPCB Part Class: Extended Part; Datasheet: https://atta.szlcsc.comnull; Supplier: LCSC; Convert to PCB: yes
footprint LQFP-128_L14.0-W14.0-P0.40-LS16.0-BL-EP5.8
3D model LQFP-128_L14.0-W14.0-H1.6-P0.40-LS16.0-BL-EP5.8
pins: 1 PG4, 2 PG3, 3 PG2, 4 PG1, 5 PG0, 6 PE24, 7 PE23, 8 PE22, 9 PE21, 10 PE20, 11 PE19, 12 VCC-PE0, 13 PE18, 14 PE17, 15 PE16, 16 PE15, 17 PE14, 18 PE13, 19 VDD-SYS3, 20 VDD-CPU3, 21 VDD-CPU2, 22 PE12, 23 PE11, 24 PE10, 25 VDD-CPU1, 26 VDD-CPU0, 27 PE9, 28 PE8, 29 VCC-PE1, 30 PE7, 31 PE6, 32 PE5, 33 PE4, 34 PE3, 35 PE2, 36 PE1, 37 PE0, 38 VDD-CPU4, 39 PB0, 40 PB1, 41 PB2, 42 PB3, 43 PB4, 44 PB5, 45 PB6, 46 PB7, 47 VDD-CPU5, 48 PB8, 49 PB9, 50 VCC-IO3, 51 VDD-CPU6, 52 PC0, 53 PC1, 54 PC2, 55 PC3, 56 VDD-CPU7, 57 VCC-IO2, 58 VDD-SYS4, 59 VCC-DRAM8, 60 VCC-DRAM9, 61 VCC-DRAM10, 62 VCC-DRAM11, 63 SVREF1, 64 VDD-SYS5, 65 VCC-DRAM0, 66 VCC-DRAM1, 67 VCC-DRAM2, 68 VCC-DRAM3, 69 VCC-DRAM4, 70 VCC-DRAM5, 71 SVREF0, 72 VCC-DRAM6, 73 SZQ, 74 X24MOUT, 75 X24MIN, 76 VCC-PLL, 77 EPHY-LINK-LED, 78 EPHY-SPD-LED, 79 VCC-DRAM7, 80 VDD-SYS0, 81 MCSI-D0P, 82 MCSI-D0N, 83 MCSI-D1P, 84 MCSI-D1N, 85 VCC-MCSI, 86 MCSI-CKP, 87 MCSI-CKN, 88 EPHY-VDD, 89 EPHY-RXN, 90 EPHY-RXP, 91 EPHY-TXN, 92 EPHY-TXP, 93 EPHY-VCC, 94 EPHY-RTX, 95 X32KOUT, 96 X32KIN, 97 RTC-VIO, 98 VCC-RTC, 99 RESET, 100 PF6, 101 PF5, 102 PF4, 103 PF3, 104 VCC-IO0, 105 PF2, 106 PF1, 107 PF0, 108 VDD-SYS1, 109 VCC-USB, 110 USB-DM, 111 USB-DP, 112 LRADC0, 113 MICIN1P, 114 MICIN1N, 115 AVCC, 116 AGND, 117 VRA1, 118 VRA2, 119 HBIAS, 120 HPOUTR, 121 HPOUTL, 122 HPVCCIN, 123 HPVCCBP, 124 HPCOMFB, 125 HPCOM, 126 VDD-SYS2, 127 VCC-IO1, 128 PG5, 129 GND

## D1-H
designator U?
Manufacturer: Allwinner(全志); Add into BOM: yes; Name: D1-H; Symbol: D1-H; Device: D1-H; LCSC Part Name: Allwinner D1-H; Supplier Part: C5365284; Manufacturer Part: D1-H; Supplier Footprint: LFBGA-337; JLCPCB Part Class: Extended Part; Datasheet: https://atta.szlcsc.com/upload/public/pdf/source/20230321/8AB3BE7D89B28C6109E5AF091AFC8210.pdf; Supplier: LCSC; Convert to PCB: yes
footprint BGA-337_L13.0-W13.0-P0.65_QUANZHI-D1-C2940046
3D model BGA-337_L13.0-W13.0-P0.65_QUANZHI-D1-C2940046
part A pins: A1 GND, A2 GND, A3 PG2, A4 PG4, A6 PG8, A8 USB1-DP, A11 TP-X2, A13 HP-DET, A15 GND, A17 MIC-DET, A18 FEL, A19 GND, A20 GND, B1 GND, B2 PG0, B3 PG1, B4 PG5, B5 PG6, B6 PG9, B7 USB0-DP, B8 USB1-DM, B9 TVIN0, B10 GND, B11 TP-Y1, B12 LRADC, B13 GPADC1, B14 LINEOUTRP, B15 LINEOUTLP, B16 LINEINL, B17 FMINL, B18 VRA2, B19 VRA1, B20 GND, C1 PF1, C2 PF0, C3 PG3, C4 GND, C5 PG7, C6 PG10, C7 USB0-DM, C8 GND, C9 TVIN1, C10 GND, C11 TP-Y2, C12 TP-X1, C13 GPADC0, C14 LINEOUTRN, C15 LINEOUTLN, C16 LINEINR, C17 FMINR, C18 AVCC, C19 ALDO, C20 VDD33, D1 PF3, D2 PF2, D3 PF6, D4 PG11, D5 PG12, D6 PG13, D7 PG18, D9 VCC-TVIN, D10 HPVCC, D12 HPLDOIN, D13 HPOUTR, D15 MICIN2N, D16 MICIN3N, D17 MICIN3P, D18 AGND, D19 MICIN1N, D20 MICIN1P, E2 PF5, E3 PF4, E4 VCC-PG, E5 GND, E6 PG14, E7 PG17, E9 GND-TVIN, E10 TVIN-VRP, E12 HPLDO, E13 HPOUTFB, E15 MICIN2P, E16 MBIAS, E17 HBIAS, E18 VCC-TVOUT, E19 TVOUT0, F1 PC1, F2 PC0, F3 GND, F4 VCC-PF, F5 PC5, F6 PG15, F7 PG16, F9 GND, F10 TVIN-VRN, F12 GND, F13 HPOUTL, F15 PB11, F16 PB12, F17 PB10, F18 GND, F19 HCEC, F20 HHPD, G2 PC3, G3 PC2, G4 VCC-PC, G5 PC7, G6 PC6, G7 VDD-CPU, G8 VDD-CPU, G9 VDD-CPUFB, G10 GND, G11 GND, G12 GND, G13 VDD-SYS, G14 VDD-SYS, G15 PB8, G16 PB9, G17 VCC-IO, G18 HSDA, G19 HSCL, H1 GND, H2 GND, H3 PC4, H7 VDD-CPU, H8 VDD-CPU, H9 VDD-CPU, H10 GND, H11 GND, H12 GND, H13 VDD-SYS, H14 VDD-SYS, H18 GND, H19 HTX2P, H20 HTX2N, J2 REFCLK-OUT, J3 GND, J4 VCC-EFUSE, J5 VCC-PLL, J6 GND, J7 GND, J8 GND, J9 GND, J10 GND, J11 GND, J12 GND, J13 VDD-SYS, J14 VDD-SYS, J15 PB7, J16 PB0, J17 PB1, J18 HTX1P, J19 HTX1N, K1 DXIN, K2 DXOUT, K3 GND, K4 VCC-DCXO, K5 VCC-RTC, K6 GND, K7 GND, K8 GND, K9 GND, K10 GND, K11 GND, K12 GND, K13 GND, K14 GND, K15 PB5, K16 PB4, K17 PB6, K18 HTX0P, K19 HTX0N, L2 X32KIN, L3 X32KOUT, L7 LDOA-OUT, L8 GND, L9 GND, L10 GND, L11 GND, L12 GND, L13 GND, L14 GND, L18 GND, L19 HTXCP, L20 HTXCN
part B pins: M2 RESET, M3 GND, M4 VCC-PE, M5 GND, M6 PE17, M7 LDO-IN, M8 GND, M9 GND, M10 GND, M11 GND, M12 GND, M13 GND, M14 GND, M15 PB3, M16 PB2, M17 VCC-HDMI, M18 PD19, M19 PD18, N1 PE11, N2 TEST, N3 NMI, N4 PE14, N5 PE15, N6 PE16, N7 LDOB-OUT, N8 VCC-DRAM, N9 VCC-DRAM, N10 VCC-DRAM, N11 GND, N12 GND, N13 GND, N14 GND, N15 GND, N16 PD15, N17 PD14, N18 GND, N19 PD17, N20 PD16, P2 PE9, P3 PE10, P7 GND, P8 VCC-DRAM, P9 VCC-DRAM, P10 VCC-DRAM, P11 GND, P12 GND, P13 GND, P14 VDD18-DRAM, P18 PD13, P19 PD12, R1 PE6, R2 PE7, R3 PE8, R4 PE13, R5 PE12, R6 SDQ15, R7 SDQ13, R9 SWE, R10 GND, R12 SCS0, R13 SCS1, R15 SA13, R16 VCC-LVDS, R17 PD11, R18 GND, R19 PD9, R20 PD8, T2 PE4, T3 PE5, T4 SDQ14, T5 GND, T6 SDQ11, T7 GND, T9 SCAS, T10 SCKP, T12 SODT0, T13 GND, T15 SA15, T16 VCC-PD, T17 PD10, T18 PD7, T19 PD6, U1 PE1, U2 PE2, U3 PE3, U4 SDQ8, U5 SDQ10, U6 SDQ12, U7 SDQ9, U9 SRAS, U10 SCKN, U12 SODT1, U13 SA3, U15 SA4, U16 SVREF, U17 SZQ, U18 PD5, U19 PD4, U20 PD3, V1 PE0, V2 GND, V3 GND, V4 GND, V5 SDQ6, V6 GND, V7 SDQ1, V8 SDQ3, V9 GND, V10 SBA0, V11 SA5, V12 GND, V13 SA0, V14 SA2, V15 GND, V16 SA14, V17 GND, V18 PD21, V19 PD2, V20 PD1, W1 GND, W2 SDQM1, W3 SDQS1P, W4 SDQ4, W5 SDQ7, W6 SDQS0P, W7 SDQ0, W8 SDQ2, W9 SCKE0, W10 SBA1, W11 SA6, W12 SA10, W13 SA1, W14 SA8, W15 SA11, W16 SA12, W17 GND, W18 PD20, W19 PD0, W20 GND, Y1 GND, Y2 GND, Y3 SDQS1N, Y4 SDQ5, Y6 SDQS0N, Y8 SDQM0, Y9 SCKE1, Y11 SBA2, Y13 SA7, Y15 SA9, Y17 SRST, Y18 PD22, Y19 GND, Y20 GND

## D1s
designator U?
Manufacturer: Allwinner(全志); Add into BOM: yes; Name: D1s; Symbol: D1S; Device: D1s; LCSC Part Name: Allwinner D1s; Supplier Part: C5365285; Manufacturer Part: D1s; Supplier Footprint: LQFP-128-EP(14x14); JLCPCB Part Class: Extended Part; Datasheet: https://atta.szlcsc.com/upload/public/pdf/source/20230321/D5D7A749E0807F325F81703DEA59CF7E.pdf; Supplier: LCSC; Convert to PCB: yes
footprint LQFP-128_L14.0-W14.0-P0.40-LS16.0-BL-EP5.8
3D model LQFP-128_L14.0-W14.0-H1.6-P0.40-LS16.0-BL-EP5.8
pins: 1 PG6, 2 PG7, 3 PG8, 4 PG9, 5 PG10, 6 PG11, 7 PF0, 8 PF1, 9 PF2, 10 PF3, 11 PF4, 12 PF5, 13 PF6, 14 PC7, 15 PC6, 16 PC5, 17 PC4, 18 PC3, 19 PC2, 20 VCC-PLL, 21 REFCLK-OUT, 22 DXOUT, 23 DXIN, 24 X32KOUT, 25 X32KIN, 26 VCC-RTC, 27 RESET, 28 LDOA-OUT, 29 LDO-IN, 30 LDOB-OUT, 31 PE13, 32 PE12, 33 PE3, 34 VCC-PE, 35 PE2, 36 PE11, 37 PE10, 38 PE9, 39 PE8, 40 PE7, 41 PE6, 42 PE5, 43 PE4, 44 PE0, 45 PE1, 46 VDD-SYS0, 47 NC, 48 VCC-DRAM0, 49 VCC-DRAM1, 50 VDD18-DRAM, 51 VDD-SYS1, 52 PD22, 53 PD21, 54 PD20, 55 PD0, 56 PD1, 57 PD2, 58 PD3, 59 PD4, 60 PD5, 61 PD6, 62 PD7, 63 PD8, 64 PD9, 65 VCC-LVDS, 66 VCC-PD, 67 PD10, 68 PD11, 69 PD13, 70 PD12, 71 PD14, 72 PD15, 73 PD16, 74 PD17, 75 PD18, 76 PD19, 77 VCC-TVOUT, 78 TVOUT0, 79 PB7, 80 PB6, 81 VDD-SYS2, 82 PB5, 83 VCC-IO, 84 PB4, 85 PB3, 86 PB2, 87 MICIN3P, 88 MICIN3N, 89 AVCC, 90 VRA2, 91 AGND, 92 VRA1, 93 FMINR, 94 FMINL, 95 LINEINR, 96 LINEINL, 97 HPVCC, 98 HPOUTR, 99 HPOUTL, 100 HPOUTFB, 101 GPADC0, 102 TP-X1, 103 TP-X2, 104 TP-Y1, 105 TP-Y2, 106 NC0, 107 VCC-TVIN, 108 TVIN0, 109 TVIN1, 110 TVIN-VRP, 111 TVIN-VRN, 112 USB1-DP, 113 USB1-DM, 114 USB0-DM, 115 USB0-DP, 116 VDD-CORE0, 117 VDD-CORE1, 118 PG1, 119 PG2, 120 PG0, 121 PG3, 122 PG5, 123 PG4, 124 PG12, 125 PG13, 126 PG14, 127 PG15, 128 VCC-PG, 129 EP

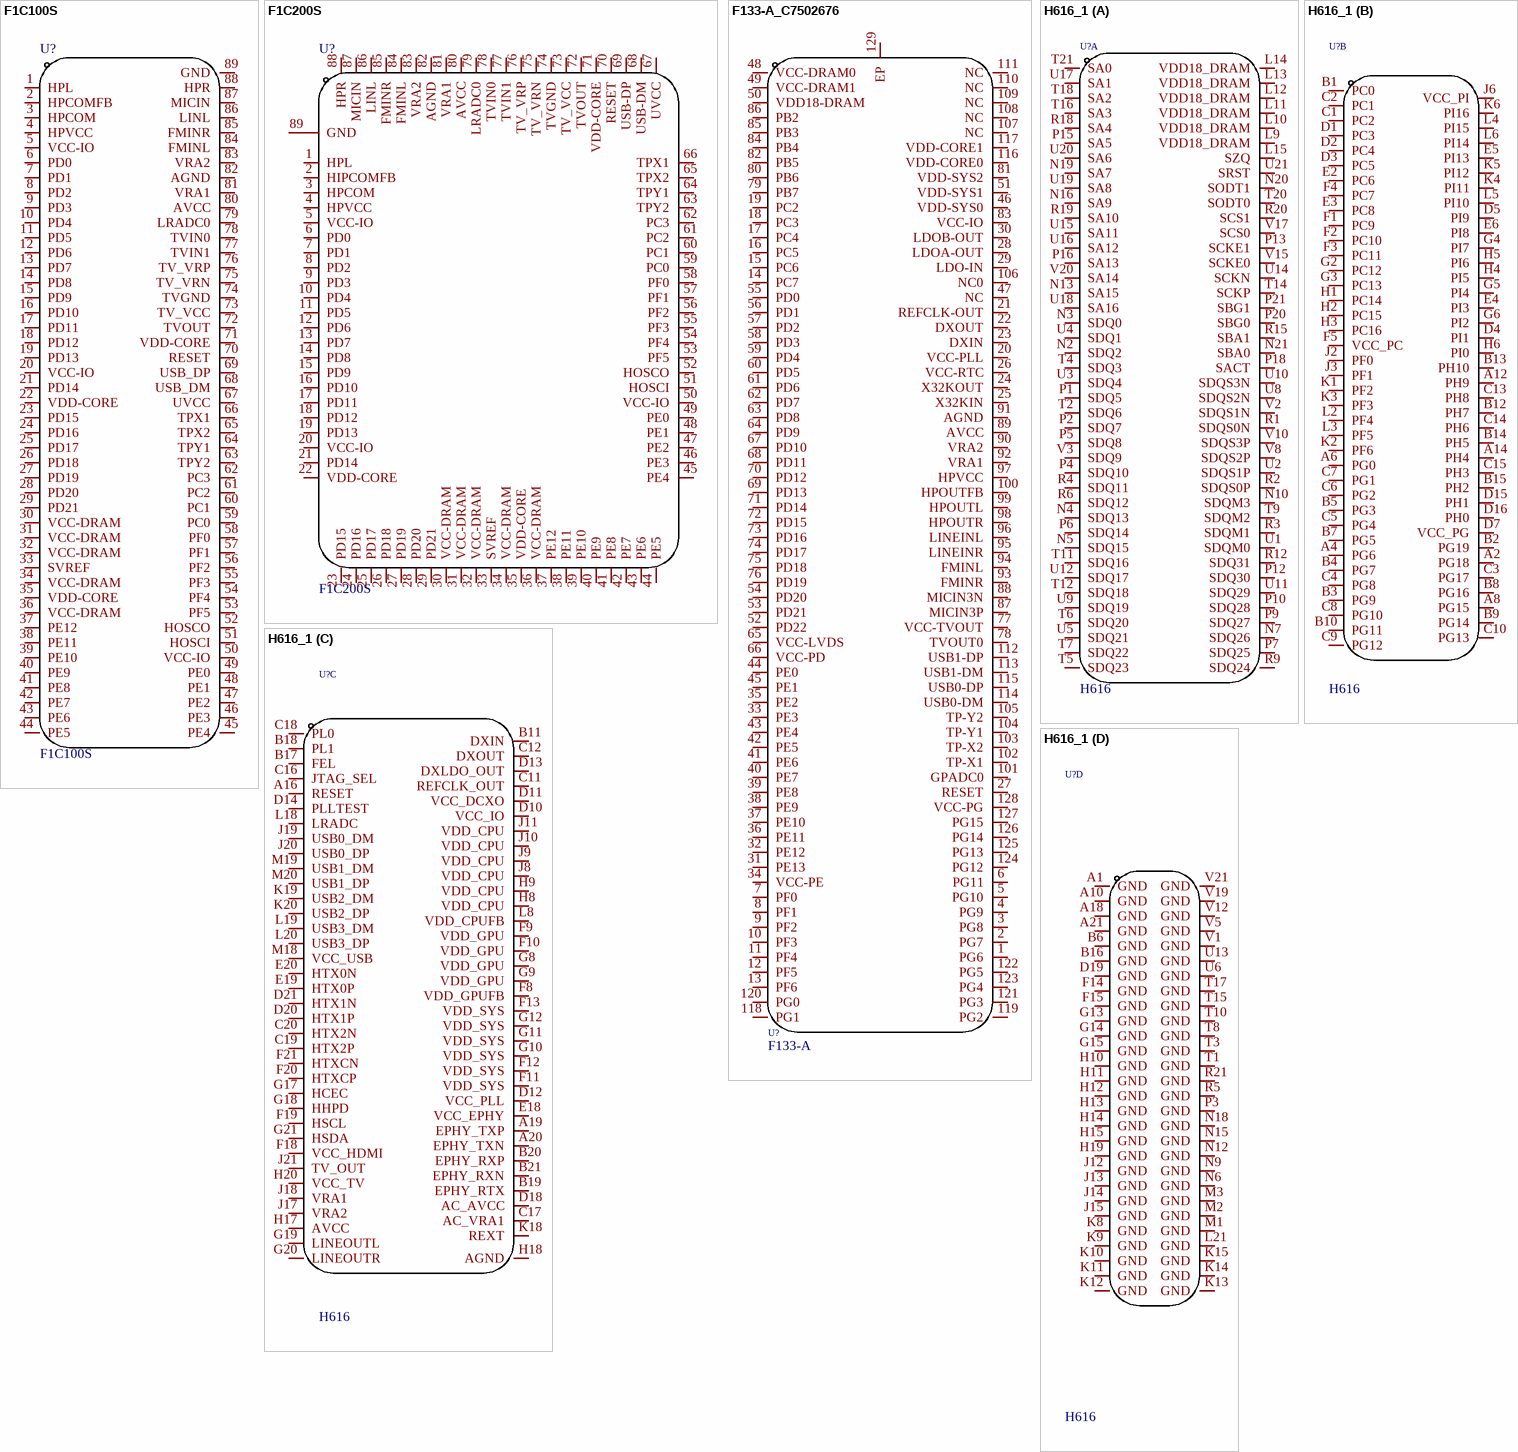
[diagram p11: symbols F1C100S to H616_1]